# Altium integrated library Altera FLEX 10K.IntLib: 292 symbols (part 26 of 37)
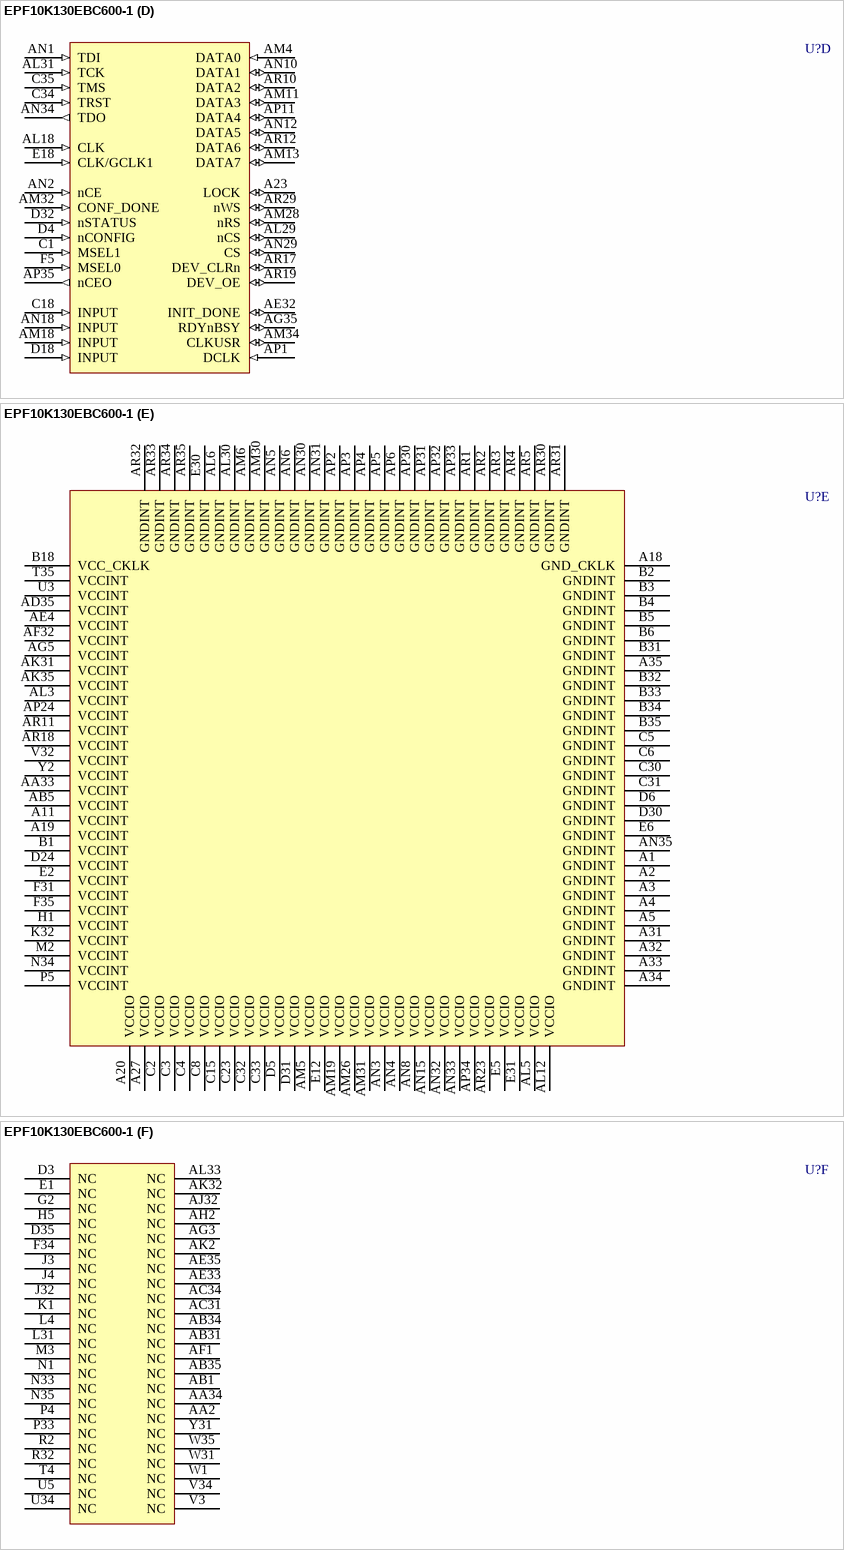
[diagram p424: symbol EPF10K130EBC600-1]

## EPF10K130EBC600-1
designator U?
FLEX EPF10K130E 2.5V Embedded PLD, 424 User IO Pins, 600-Pin BGA, Speed Grade 1, Commercial Grade; Published: 17-Jul-2002; LatestRevisionDate: 13-Apr-2006; LatestRevisionNote: IPC-7351 Footprint Added.; DatasheetVersion: ver2.5, Jan-2003; PackageVersion: ver14.1, Oct-2005; PackageReference: BGA600; Publisher: Altium Limited; PackageDescription: 600-Ball Ball Grid Array (BGA600); Code_JEDEC: MO-192-BAW-1 (Depopulated); ComponentLink1Description: Manufacturer Link; ComponentLink1URL: http://www.altera.com/products/devices/flex10k/f10-index.html; ComponentLink2Description: Datasheet; ComponentLink2URL: http://www.altera.com/literature/ds/dsf10ke.pdf
footprint BGA600 (BGA, 600-Leads, Body 45x45mm, Pitch 1.27mm)
3D model EPF10K130E-BGA600 (600-Ball Ball Grid Array (BGA600))
part A pins: A6 I/O (io), A7 I/O (io), A8 I/O (io), A9 I/O (io), A10 I/O (io), A12 I/O (io), A13 I/O (io), A14 I/O (io), A15 I/O (io), A16 I/O (io), A17 I/O (io), A21 I/O (io), A22 I/O (io), A24 I/O (io), A25 I/O (io), A26 I/O (io), A28 I/O (io), A29 I/O (io), A30 I/O (io), B7 I/O (io), B8 I/O (io), B9 I/O (io), B10 I/O (io), B11 I/O (io), B12 I/O (io), B13 I/O (io), B14 I/O (io), B15 I/O (io), B16 I/O (io), B17 I/O (io), B19 I/O (io), B20 I/O (io), B21 I/O (io), B22 I/O (io), B23 I/O (io), B24 I/O (io), B25 I/O (io), B26 I/O (io), B27 I/O (io), B28 I/O (io), B29 I/O (io), B30 I/O (io), C7 I/O (io), C9 I/O (io), C10 I/O (io), C11 I/O (io), C12 I/O (io), C13 I/O (io), C14 I/O (io), C16 I/O (io), C17 I/O (io), C19 I/O (io), C20 I/O (io), C21 I/O (io), C22 I/O (io), C24 I/O (io), C25 I/O (io), C26 I/O (io), C27 I/O (io), C28 I/O (io), C29 I/O (io), D1 I/O (io), D2 I/O (io), D7 I/O (io), D8 I/O (io), D9 I/O (io), D10 I/O (io), D11 I/O (io), D12 I/O (io), D13 I/O (io), D14 I/O (io), D15 I/O (io), D16 I/O (io), D17 I/O (io), D19 I/O (io), D20 I/O (io), D21 I/O (io), D22 I/O (io), D23 I/O (io), D25 I/O (io), D26 I/O (io), D27 I/O (io), D28 I/O (io), D29 I/O (io), D33 I/O (io), D34 I/O (io), E3 I/O (io), E4 I/O (io), E7 I/O (io), E8 I/O (io), E9 I/O (io), E10 I/O (io), E11 I/O (io), E13 I/O (io), E14 I/O (io), E15 I/O (io), E16 I/O (io), E17 I/O (io), E19 I/O (io), E20 I/O (io), E21 I/O (io), E22 I/O (io), E23 I/O (io), E24 I/O (io), E25 I/O (io), E26 I/O (io), E27 I/O (io), E28 I/O (io), E29 I/O (io), E32 I/O (io), E33 I/O (io), E34 I/O (io), E35 I/O (io), F1 I/O (io), F2 I/O (io), F3 I/O (io), F4 I/O (io), F32 I/O (io), F33 I/O (io), G1 I/O (io), G3 I/O (io), G4 I/O (io), G5 I/O (io), G31 I/O (io), G32 I/O (io), G33 I/O (io), G34 I/O (io), G35 I/O (io), H2 I/O (io), H3 I/O (io), H4 I/O (io), H31 I/O (io), H32 I/O (io), H33 I/O (io), H34 I/O (io), H35 I/O (io), K2 I/O (io), K3 I/O (io), K4 I/O (io), K5 I/O (io), K31 I/O (io), K33 I/O (io), K34 I/O (io), K35 I/O (io)
part B pins: AA1 I/O (io), AA3 I/O (io), AA4 I/O (io), AA5 I/O (io), AA31 I/O (io), AA32 I/O (io), AA35 I/O (io), AB2 I/O (io), AB3 I/O (io), AB4 I/O (io), AB32 I/O (io), AB33 I/O (io), AC1 I/O (io), AC2 I/O (io), AC3 I/O (io), AC4 I/O (io), AC5 I/O (io), AC32 I/O (io), AC33 I/O (io), AC35 I/O (io), AD1 I/O (io), AD2 I/O (io), AD3 I/O (io), AD4 I/O (io), AD5 I/O (io), AD31 I/O (io), AD32 I/O (io), AD33 I/O (io), AD34 I/O (io), AE1 I/O (io), AE2 I/O (io), AE3 I/O (io), AE5 I/O (io), AE31 I/O (io), AE34 I/O (io), AF2 I/O (io), AF3 I/O (io), AF4 I/O (io), AF5 I/O (io), AF31 I/O (io), AF33 I/O (io), AF34 I/O (io), AF35 I/O (io), AG1 I/O (io), AG2 I/O (io), AG4 I/O (io), AG31 I/O (io), AG32 I/O (io), AG33 I/O (io), AG34 I/O (io), AH1 I/O (io), AH3 I/O (io), AH4 I/O (io), AH5 I/O (io), AH31 I/O (io), AH32 I/O (io), AH33 I/O (io), AH34 I/O (io), AH35 I/O (io), AJ1 I/O (io), AJ2 I/O (io), AJ3 I/O (io), AJ4 I/O (io), J1 I/O (io), J2 I/O (io), J5 I/O (io), J31 I/O (io), J33 I/O (io), J34 I/O (io), J35 I/O (io), L1 I/O (io), L2 I/O (io), L3 I/O (io), L5 I/O (io), L32 I/O (io), L33 I/O (io), L34 I/O (io), L35 I/O (io), M1 I/O (io), M4 I/O (io), M5 I/O (io), M31 I/O (io), M32 I/O (io), M33 I/O (io), M34 I/O (io), M35 I/O (io), N2 I/O (io), N3 I/O (io), N4 I/O (io), N5 I/O (io), N31 I/O (io), N32 I/O (io), P1 I/O (io), P2 I/O (io), P3 I/O (io), P31 I/O (io), P32 I/O (io), P34 I/O (io), P35 I/O (io), R1 I/O (io), R3 I/O (io), R4 I/O (io), R5 I/O (io), R31 I/O (io), R33 I/O (io), R34 I/O (io), R35 I/O (io), T1 I/O (io), T2 I/O (io), T3 I/O (io), T5 I/O (io), T31 I/O (io), T32 I/O (io), T33 I/O (io), T34 I/O (io), U1 I/O (io), U2 I/O (io), U4 I/O (io), U31 I/O (io), U32 I/O (io), U33 I/O (io), U35 I/O (io), V1 I/O (io), V2 I/O (io), V4 I/O (io), V5 I/O (io), V31 I/O (io), V33 I/O (io), V35 I/O (io), W2 I/O (io), W3 I/O (io), W4 I/O (io), W5 I/O (io), W32 I/O (io), W33 I/O (io), W34 I/O (io), Y1 I/O (io), Y3 I/O (io), Y4 I/O (io), Y5 I/O (io), Y32 I/O (io), Y33 I/O (io), Y34 I/O (io), Y35 I/O (io)
part C pins: AJ5 I/O (io), AJ31 I/O (io), AJ33 I/O (io), AJ34 I/O (io), AJ35 I/O (io), AK1 I/O (io), AK3 I/O (io), AK4 I/O (io), AK5 I/O (io), AK33 I/O (io), AK34 I/O (io), AL1 I/O (io), AL2 I/O (io), AL4 I/O (io), AL7 I/O (io), AL8 I/O (io), AL9 I/O (io), AL10 I/O (io), AL11 I/O (io), AL13 I/O (io), AL14 I/O (io), AL15 I/O (io), AL16 I/O (io), AL17 I/O (io), AL19 I/O (io), AL20 I/O (io), AL21 I/O (io), AL22 I/O (io), AL23 I/O (io), AL24 I/O (io), AL25 I/O (io), AL26 I/O (io), AL27 I/O (io), AL28 I/O (io), AL32 I/O (io), AL34 I/O (io), AL35 I/O (io), AM1 I/O (io), AM2 I/O (io), AM3 I/O (io), AM7 I/O (io), AM8 I/O (io), AM9 I/O (io), AM10 I/O (io), AM12 I/O (io), AM14 I/O (io), AM15 I/O (io), AM16 I/O (io), AM17 I/O (io), AM20 I/O (io), AM21 I/O (io), AM22 I/O (io), AM23 I/O (io), AM24 I/O (io), AM25 I/O (io), AM27 I/O (io), AM29 I/O (io), AM33 I/O (io), AM35 I/O (io), AN7 I/O (io), AN9 I/O (io), AN11 I/O (io), AN13 I/O (io), AN14 I/O (io), AN16 I/O (io), AN17 I/O (io), AN19 I/O (io), AN20 I/O (io), AN21 I/O (io), AN22 I/O (io), AN23 I/O (io), AN24 I/O (io), AN25 I/O (io), AN26 I/O (io), AN27 I/O (io), AN28 I/O (io), AP7 I/O (io), AP8 I/O (io), AP9 I/O (io), AP10 I/O (io), AP12 I/O (io), AP13 I/O (io), AP14 I/O (io), AP15 I/O (io), AP16 I/O (io), AP17 I/O (io), AP18 I/O (io), AP19 I/O (io), AP20 I/O (io), AP21 I/O (io), AP22 I/O (io), AP23 I/O (io), AP25 I/O (io), AP26 I/O (io), AP27 I/O (io), AP28 I/O (io), AP29 I/O (io), AR6 I/O (io), AR7 I/O (io), AR8 I/O (io), AR9 I/O (io), AR13 I/O (io), AR14 I/O (io), AR15 I/O (io), AR16 I/O (io), AR20 I/O (io), AR21 I/O (io), AR22 I/O (io), AR24 I/O (io), AR25 I/O (io), AR26 I/O (io), AR27 I/O (io), AR28 I/O (io)
part D pins: A23 LOCK (io), AE32 INIT_DONE (io), AG35 RDYnBSY (io), AL18 CLK (in), AL29 nCS (io), AL31 TCK (in), AM4 DATA0 (in), AM11 DATA3 (io), AM13 DATA7 (io), AM18 INPUT (in), AM28 nRS (io), AM32 CONF_DONE (in), AM34 CLKUSR (io), AN1 TDI (in), AN2 nCE (in), AN10 DATA1 (io), AN12 DATA5 (io), AN18 INPUT (in), AN29 CS (io), AN34 TDO (out), AP1 DCLK (in), AP11 DATA4 (io), AP35 nCEO (out), AR10 DATA2 (io), AR12 DATA6 (io), AR17 DEV_CLRn (io), AR19 DEV_OE (io), AR29 nWS (io), C1 MSEL1 (in), C18 INPUT (in), C34 TRST (in), C35 TMS (in), D4 nCONFIG (in), D18 INPUT (in), D32 nSTATUS (in), E18 CLK/GCLK1 (in), F5 MSEL0 (in)
part E pins: A1 GNDINT (power), A2 GNDINT (power), A3 GNDINT (power), A4 GNDINT (power), A5 GNDINT (power), A11 VCCINT (power), A18 GND_CKLK (power), A19 VCCINT (power), A20 VCCIO (power), A27 VCCIO (power), A31 GNDINT (power), A32 GNDINT (power), A33 GNDINT (power), A34 GNDINT (power), A35 GNDINT (power), AA33 VCCINT (power), AB5 VCCINT (power), AD35 VCCINT (power), AE4 VCCINT (power), AF32 VCCINT (power), AG5 VCCINT (power), AK31 VCCINT (power), AK35 VCCINT (power), AL3 VCCINT (power), AL5 VCCIO (power), AL6 GNDINT (power), AL12 VCCIO (power), AL30 GNDINT (power), AM5 VCCIO (power), AM6 GNDINT (power), AM19 VCCIO (power), AM26 VCCIO (power), AM30 GNDINT (power), AM31 VCCIO (power), AN3 VCCIO (power), AN4 VCCIO (power), AN5 GNDINT (power), AN6 GNDINT (power), AN8 VCCIO (power), AN15 VCCIO (power), AN30 GNDINT (power), AN31 GNDINT (power), AN32 VCCIO (power), AN33 VCCIO (power), AN35 GNDINT (power), AP2 GNDINT (power), AP3 GNDINT (power), AP4 GNDINT (power), AP5 GNDINT (power), AP6 GNDINT (power), AP24 VCCINT (power), AP30 GNDINT (power), AP31 GNDINT (power), AP32 GNDINT (power), AP33 GNDINT (power), AP34 VCCIO (power), AR1 GNDINT (power), AR2 GNDINT (power), AR3 GNDINT (power), AR4 GNDINT (power), AR5 GNDINT (power), AR11 VCCINT (power), AR18 VCCINT (power), AR23 VCCIO (power), AR30 GNDINT (power), AR31 GNDINT (power), AR32 GNDINT (power), AR33 GNDINT (power), AR34 GNDINT (power), AR35 GNDINT (power), B1 VCCINT (power), B2 GNDINT (power), B3 GNDINT (power), B4 GNDINT (power), B5 GNDINT (power), B6 GNDINT (power), B18 VCC_CKLK (power), B31 GNDINT (power), B32 GNDINT (power), B33 GNDINT (power), B34 GNDINT (power), B35 GNDINT (power), C2 VCCIO (power), C3 VCCIO (power), C4 VCCIO (power), C5 GNDINT (power), C6 GNDINT (power), C8 VCCIO (power), C15 VCCIO (power), C23 VCCIO (power), C30 GNDINT (power), C31 GNDINT (power), C32 VCCIO (power), C33 VCCIO (power), D5 VCCIO (power), D6 GNDINT (power), D24 VCCINT (power), D30 GNDINT (power), D31 VCCIO (power), E2 VCCINT (power), E5 VCCIO (power), E6 GNDINT (power), E12 VCCIO (power), E30 GNDINT (power), E31 VCCIO (power), F31 VCCINT (power), F35 VCCINT (power), H1 VCCINT (power), K32 VCCINT (power), M2 VCCINT (power), N34 VCCINT (power), P5 VCCINT (power), T35 VCCINT (power), U3 VCCINT (power), V32 VCCINT (power), Y2 VCCINT (power)
part F pins: AA2 NC, AA34 NC, AB1 NC, AB31 NC, AB34 NC, AB35 NC, AC31 NC, AC34 NC, AE33 NC, AE35 NC, AF1 NC, AG3 NC, AH2 NC, AJ32 NC, AK2 NC, AK32 NC, AL33 NC, D3 NC, D35 NC, E1 NC, F34 NC, G2 NC, H5 NC, J3 NC, J4 NC, J32 NC, K1 NC, L4 NC, L31 NC, M3 NC, N1 NC, N33 NC, N35 NC, P4 NC, P33 NC, R2 NC, R32 NC, T4 NC, U5 NC, U34 NC, V3 NC, V34 NC, W1 NC, W31 NC, W35 NC, Y31 NC

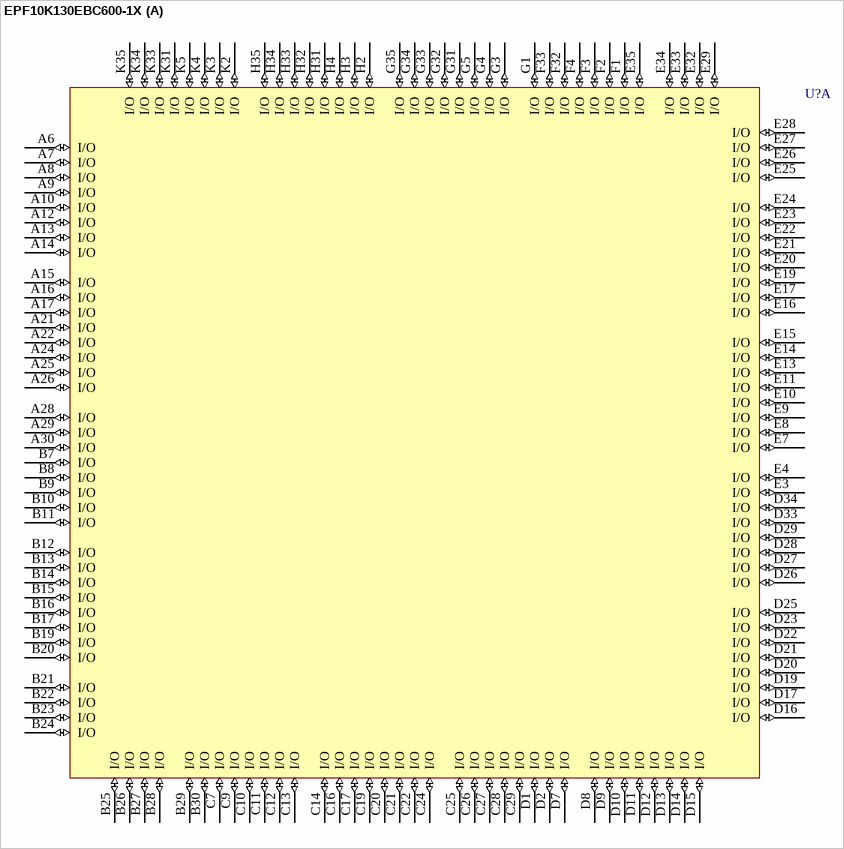
[diagram p270: symbol EPF10K130EBC600-1X]

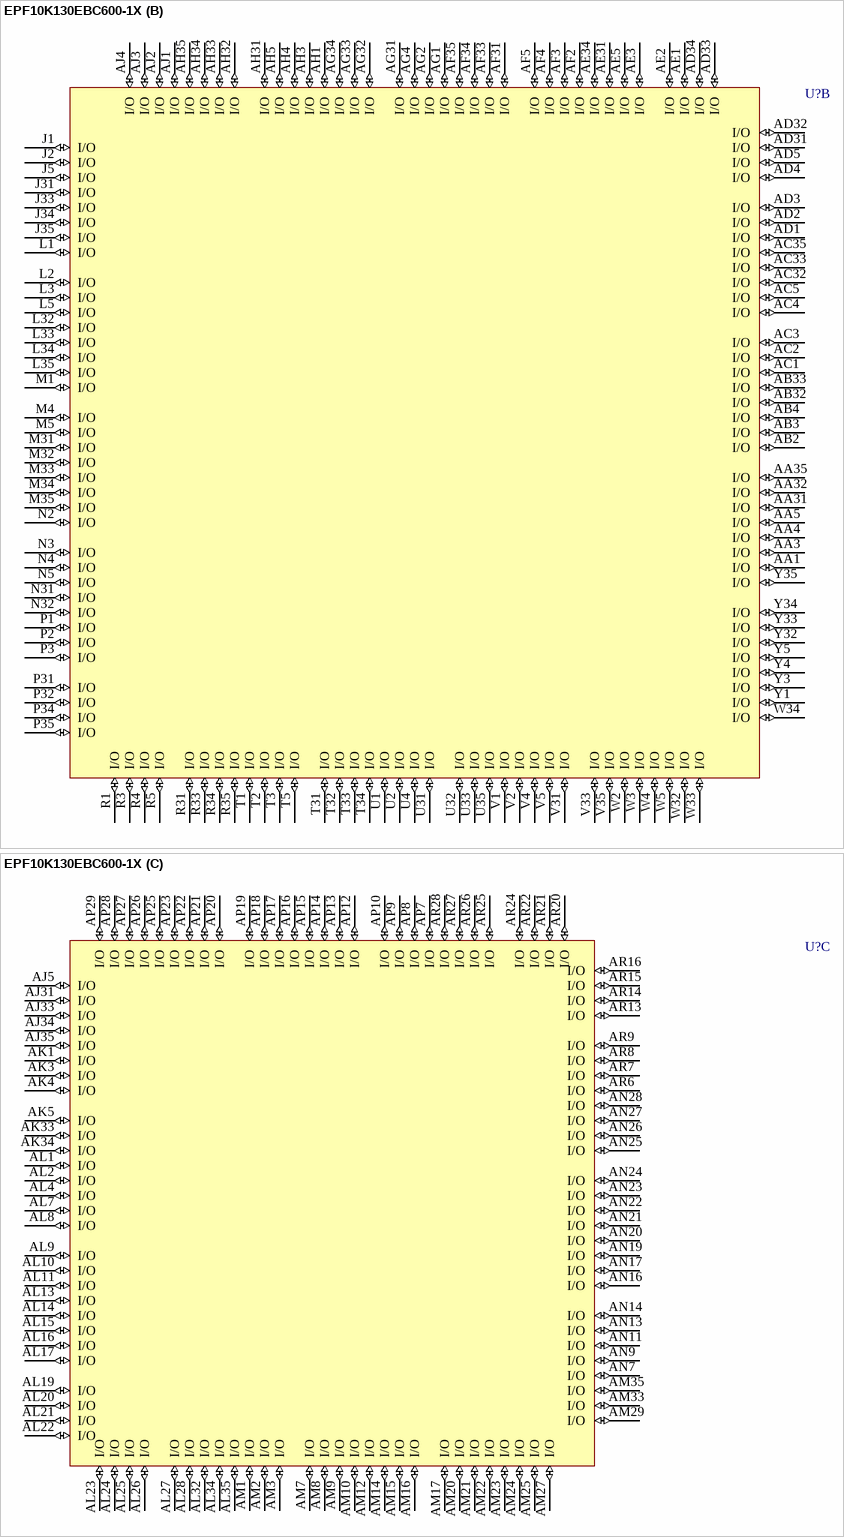
[diagram p271: symbol EPF10K130EBC600-1X]

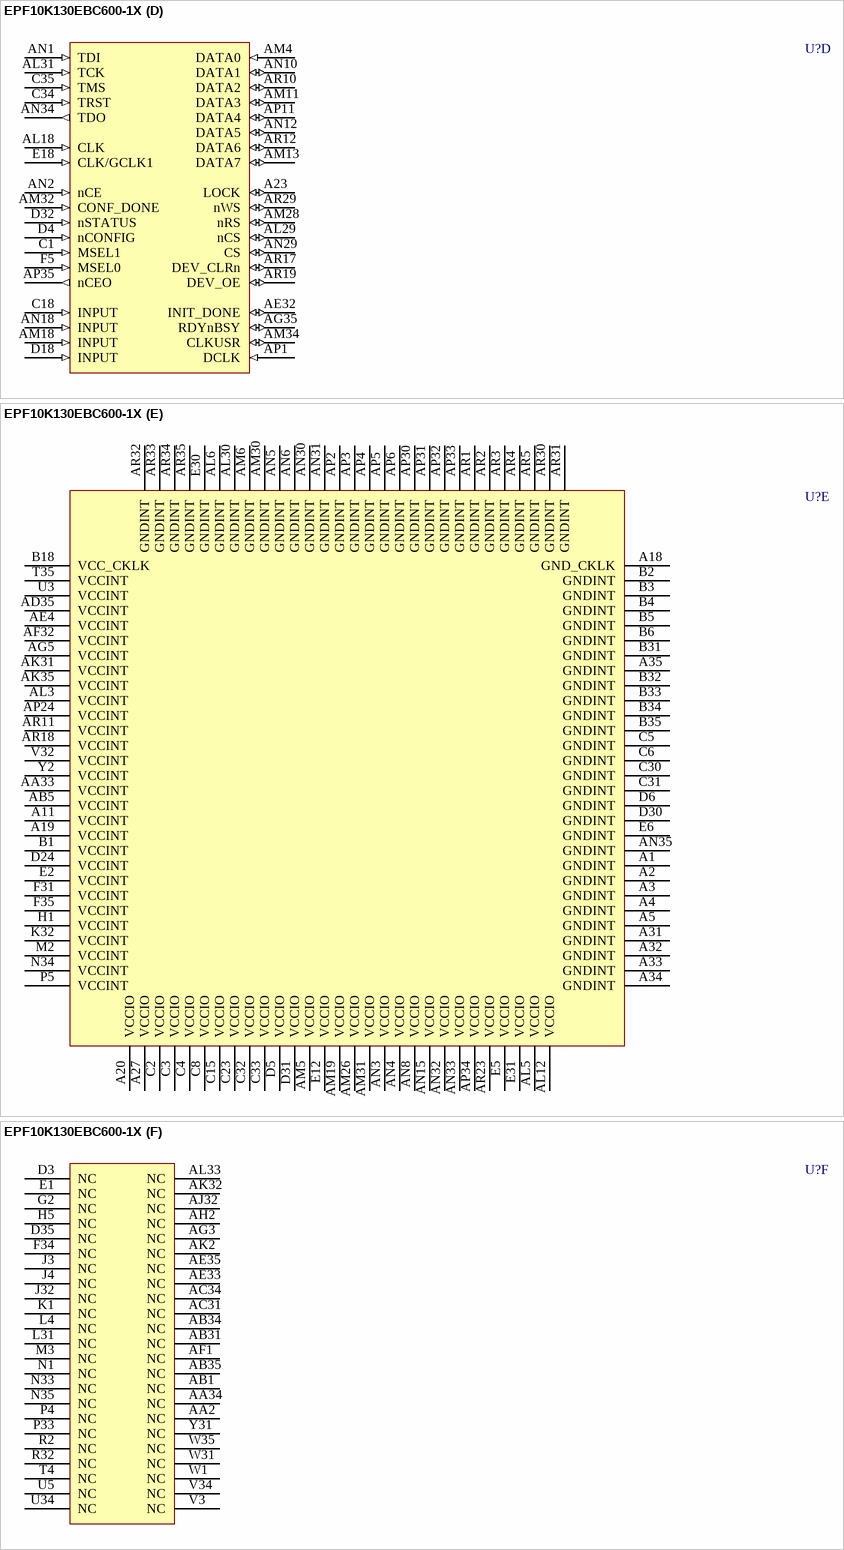
[diagram p272: symbol EPF10K130EBC600-1X]

## EPF10K130EBC600-1X
designator U?
FLEX EPF10K130E 2.5V Embedded PLD, 424 User IO Pins, 600-Pin BGA, Speed Grade 1, Commercial Grade; Published: 17-Jul-2002; LatestRevisionDate: 13-Apr-2006; LatestRevisionNote: IPC-7351 Footprint Added.; DatasheetVersion: ver2.5, Jan-2003; PackageVersion: ver14.1, Oct-2005; PackageReference: BGA600; Publisher: Altium Limited; PackageDescription: 600-Ball Ball Grid Array (BGA600); Code_JEDEC: MO-192-BAW-1 (Depopulated); ComponentLink1Description: Manufacturer Link; ComponentLink1URL: http://www.altera.com/products/devices/flex10k/f10-index.html; ComponentLink2Description: Datasheet; ComponentLink2URL: http://www.altera.com/literature/ds/dsf10ke.pdf
footprint BGA600 (BGA, 600-Leads, Body 45x45mm, Pitch 1.27mm)
3D model EPF10K130E-BGA600 (600-Ball Ball Grid Array (BGA600))
part A pins: A6 I/O (io), A7 I/O (io), A8 I/O (io), A9 I/O (io), A10 I/O (io), A12 I/O (io), A13 I/O (io), A14 I/O (io), A15 I/O (io), A16 I/O (io), A17 I/O (io), A21 I/O (io), A22 I/O (io), A24 I/O (io), A25 I/O (io), A26 I/O (io), A28 I/O (io), A29 I/O (io), A30 I/O (io), B7 I/O (io), B8 I/O (io), B9 I/O (io), B10 I/O (io), B11 I/O (io), B12 I/O (io), B13 I/O (io), B14 I/O (io), B15 I/O (io), B16 I/O (io), B17 I/O (io), B19 I/O (io), B20 I/O (io), B21 I/O (io), B22 I/O (io), B23 I/O (io), B24 I/O (io), B25 I/O (io), B26 I/O (io), B27 I/O (io), B28 I/O (io), B29 I/O (io), B30 I/O (io), C7 I/O (io), C9 I/O (io), C10 I/O (io), C11 I/O (io), C12 I/O (io), C13 I/O (io), C14 I/O (io), C16 I/O (io), C17 I/O (io), C19 I/O (io), C20 I/O (io), C21 I/O (io), C22 I/O (io), C24 I/O (io), C25 I/O (io), C26 I/O (io), C27 I/O (io), C28 I/O (io), C29 I/O (io), D1 I/O (io), D2 I/O (io), D7 I/O (io), D8 I/O (io), D9 I/O (io), D10 I/O (io), D11 I/O (io), D12 I/O (io), D13 I/O (io), D14 I/O (io), D15 I/O (io), D16 I/O (io), D17 I/O (io), D19 I/O (io), D20 I/O (io), D21 I/O (io), D22 I/O (io), D23 I/O (io), D25 I/O (io), D26 I/O (io), D27 I/O (io), D28 I/O (io), D29 I/O (io), D33 I/O (io), D34 I/O (io), E3 I/O (io), E4 I/O (io), E7 I/O (io), E8 I/O (io), E9 I/O (io), E10 I/O (io), E11 I/O (io), E13 I/O (io), E14 I/O (io), E15 I/O (io), E16 I/O (io), E17 I/O (io), E19 I/O (io), E20 I/O (io), E21 I/O (io), E22 I/O (io), E23 I/O (io), E24 I/O (io), E25 I/O (io), E26 I/O (io), E27 I/O (io), E28 I/O (io), E29 I/O (io), E32 I/O (io), E33 I/O (io), E34 I/O (io), E35 I/O (io), F1 I/O (io), F2 I/O (io), F3 I/O (io), F4 I/O (io), F32 I/O (io), F33 I/O (io), G1 I/O (io), G3 I/O (io), G4 I/O (io), G5 I/O (io), G31 I/O (io), G32 I/O (io), G33 I/O (io), G34 I/O (io), G35 I/O (io), H2 I/O (io), H3 I/O (io), H4 I/O (io), H31 I/O (io), H32 I/O (io), H33 I/O (io), H34 I/O (io), H35 I/O (io), K2 I/O (io), K3 I/O (io), K4 I/O (io), K5 I/O (io), K31 I/O (io), K33 I/O (io), K34 I/O (io), K35 I/O (io)
part B pins: AA1 I/O (io), AA3 I/O (io), AA4 I/O (io), AA5 I/O (io), AA31 I/O (io), AA32 I/O (io), AA35 I/O (io), AB2 I/O (io), AB3 I/O (io), AB4 I/O (io), AB32 I/O (io), AB33 I/O (io), AC1 I/O (io), AC2 I/O (io), AC3 I/O (io), AC4 I/O (io), AC5 I/O (io), AC32 I/O (io), AC33 I/O (io), AC35 I/O (io), AD1 I/O (io), AD2 I/O (io), AD3 I/O (io), AD4 I/O (io), AD5 I/O (io), AD31 I/O (io), AD32 I/O (io), AD33 I/O (io), AD34 I/O (io), AE1 I/O (io), AE2 I/O (io), AE3 I/O (io), AE5 I/O (io), AE31 I/O (io), AE34 I/O (io), AF2 I/O (io), AF3 I/O (io), AF4 I/O (io), AF5 I/O (io), AF31 I/O (io), AF33 I/O (io), AF34 I/O (io), AF35 I/O (io), AG1 I/O (io), AG2 I/O (io), AG4 I/O (io), AG31 I/O (io), AG32 I/O (io), AG33 I/O (io), AG34 I/O (io), AH1 I/O (io), AH3 I/O (io), AH4 I/O (io), AH5 I/O (io), AH31 I/O (io), AH32 I/O (io), AH33 I/O (io), AH34 I/O (io), AH35 I/O (io), AJ1 I/O (io), AJ2 I/O (io), AJ3 I/O (io), AJ4 I/O (io), J1 I/O (io), J2 I/O (io), J5 I/O (io), J31 I/O (io), J33 I/O (io), J34 I/O (io), J35 I/O (io), L1 I/O (io), L2 I/O (io), L3 I/O (io), L5 I/O (io), L32 I/O (io), L33 I/O (io), L34 I/O (io), L35 I/O (io), M1 I/O (io), M4 I/O (io), M5 I/O (io), M31 I/O (io), M32 I/O (io), M33 I/O (io), M34 I/O (io), M35 I/O (io), N2 I/O (io), N3 I/O (io), N4 I/O (io), N5 I/O (io), N31 I/O (io), N32 I/O (io), P1 I/O (io), P2 I/O (io), P3 I/O (io), P31 I/O (io), P32 I/O (io), P34 I/O (io), P35 I/O (io), R1 I/O (io), R3 I/O (io), R4 I/O (io), R5 I/O (io), R31 I/O (io), R33 I/O (io), R34 I/O (io), R35 I/O (io), T1 I/O (io), T2 I/O (io), T3 I/O (io), T5 I/O (io), T31 I/O (io), T32 I/O (io), T33 I/O (io), T34 I/O (io), U1 I/O (io), U2 I/O (io), U4 I/O (io), U31 I/O (io), U32 I/O (io), U33 I/O (io), U35 I/O (io), V1 I/O (io), V2 I/O (io), V4 I/O (io), V5 I/O (io), V31 I/O (io), V33 I/O (io), V35 I/O (io), W2 I/O (io), W3 I/O (io), W4 I/O (io), W5 I/O (io), W32 I/O (io), W33 I/O (io), W34 I/O (io), Y1 I/O (io), Y3 I/O (io), Y4 I/O (io), Y5 I/O (io), Y32 I/O (io), Y33 I/O (io), Y34 I/O (io), Y35 I/O (io)
part C pins: AJ5 I/O (io), AJ31 I/O (io), AJ33 I/O (io), AJ34 I/O (io), AJ35 I/O (io), AK1 I/O (io), AK3 I/O (io), AK4 I/O (io), AK5 I/O (io), AK33 I/O (io), AK34 I/O (io), AL1 I/O (io), AL2 I/O (io), AL4 I/O (io), AL7 I/O (io), AL8 I/O (io), AL9 I/O (io), AL10 I/O (io), AL11 I/O (io), AL13 I/O (io), AL14 I/O (io), AL15 I/O (io), AL16 I/O (io), AL17 I/O (io), AL19 I/O (io), AL20 I/O (io), AL21 I/O (io), AL22 I/O (io), AL23 I/O (io), AL24 I/O (io), AL25 I/O (io), AL26 I/O (io), AL27 I/O (io), AL28 I/O (io), AL32 I/O (io), AL34 I/O (io), AL35 I/O (io), AM1 I/O (io), AM2 I/O (io), AM3 I/O (io), AM7 I/O (io), AM8 I/O (io), AM9 I/O (io), AM10 I/O (io), AM12 I/O (io), AM14 I/O (io), AM15 I/O (io), AM16 I/O (io), AM17 I/O (io), AM20 I/O (io), AM21 I/O (io), AM22 I/O (io), AM23 I/O (io), AM24 I/O (io), AM25 I/O (io), AM27 I/O (io), AM29 I/O (io), AM33 I/O (io), AM35 I/O (io), AN7 I/O (io), AN9 I/O (io), AN11 I/O (io), AN13 I/O (io), AN14 I/O (io), AN16 I/O (io), AN17 I/O (io), AN19 I/O (io), AN20 I/O (io), AN21 I/O (io), AN22 I/O (io), AN23 I/O (io), AN24 I/O (io), AN25 I/O (io), AN26 I/O (io), AN27 I/O (io), AN28 I/O (io), AP7 I/O (io), AP8 I/O (io), AP9 I/O (io), AP10 I/O (io), AP12 I/O (io), AP13 I/O (io), AP14 I/O (io), AP15 I/O (io), AP16 I/O (io), AP17 I/O (io), AP18 I/O (io), AP19 I/O (io), AP20 I/O (io), AP21 I/O (io), AP22 I/O (io), AP23 I/O (io), AP25 I/O (io), AP26 I/O (io), AP27 I/O (io), AP28 I/O (io), AP29 I/O (io), AR6 I/O (io), AR7 I/O (io), AR8 I/O (io), AR9 I/O (io), AR13 I/O (io), AR14 I/O (io), AR15 I/O (io), AR16 I/O (io), AR20 I/O (io), AR21 I/O (io), AR22 I/O (io), AR24 I/O (io), AR25 I/O (io), AR26 I/O (io), AR27 I/O (io), AR28 I/O (io)
part D pins: A23 LOCK (io), AE32 INIT_DONE (io), AG35 RDYnBSY (io), AL18 CLK (in), AL29 nCS (io), AL31 TCK (in), AM4 DATA0 (in), AM11 DATA3 (io), AM13 DATA7 (io), AM18 INPUT (in), AM28 nRS (io), AM32 CONF_DONE (in), AM34 CLKUSR (io), AN1 TDI (in), AN2 nCE (in), AN10 DATA1 (io), AN12 DATA5 (io), AN18 INPUT (in), AN29 CS (io), AN34 TDO (out), AP1 DCLK (in), AP11 DATA4 (io), AP35 nCEO (out), AR10 DATA2 (io), AR12 DATA6 (io), AR17 DEV_CLRn (io), AR19 DEV_OE (io), AR29 nWS (io), C1 MSEL1 (in), C18 INPUT (in), C34 TRST (in), C35 TMS (in), D4 nCONFIG (in), D18 INPUT (in), D32 nSTATUS (in), E18 CLK/GCLK1 (in), F5 MSEL0 (in)
part E pins: A1 GNDINT (power), A2 GNDINT (power), A3 GNDINT (power), A4 GNDINT (power), A5 GNDINT (power), A11 VCCINT (power), A18 GND_CKLK (power), A19 VCCINT (power), A20 VCCIO (power), A27 VCCIO (power), A31 GNDINT (power), A32 GNDINT (power), A33 GNDINT (power), A34 GNDINT (power), A35 GNDINT (power), AA33 VCCINT (power), AB5 VCCINT (power), AD35 VCCINT (power), AE4 VCCINT (power), AF32 VCCINT (power), AG5 VCCINT (power), AK31 VCCINT (power), AK35 VCCINT (power), AL3 VCCINT (power), AL5 VCCIO (power), AL6 GNDINT (power), AL12 VCCIO (power), AL30 GNDINT (power), AM5 VCCIO (power), AM6 GNDINT (power), AM19 VCCIO (power), AM26 VCCIO (power), AM30 GNDINT (power), AM31 VCCIO (power), AN3 VCCIO (power), AN4 VCCIO (power), AN5 GNDINT (power), AN6 GNDINT (power), AN8 VCCIO (power), AN15 VCCIO (power), AN30 GNDINT (power), AN31 GNDINT (power), AN32 VCCIO (power), AN33 VCCIO (power), AN35 GNDINT (power), AP2 GNDINT (power), AP3 GNDINT (power), AP4 GNDINT (power), AP5 GNDINT (power), AP6 GNDINT (power), AP24 VCCINT (power), AP30 GNDINT (power), AP31 GNDINT (power), AP32 GNDINT (power), AP33 GNDINT (power), AP34 VCCIO (power), AR1 GNDINT (power), AR2 GNDINT (power), AR3 GNDINT (power), AR4 GNDINT (power), AR5 GNDINT (power), AR11 VCCINT (power), AR18 VCCINT (power), AR23 VCCIO (power), AR30 GNDINT (power), AR31 GNDINT (power), AR32 GNDINT (power), AR33 GNDINT (power), AR34 GNDINT (power), AR35 GNDINT (power), B1 VCCINT (power), B2 GNDINT (power), B3 GNDINT (power), B4 GNDINT (power), B5 GNDINT (power), B6 GNDINT (power), B18 VCC_CKLK (power), B31 GNDINT (power), B32 GNDINT (power), B33 GNDINT (power), B34 GNDINT (power), B35 GNDINT (power), C2 VCCIO (power), C3 VCCIO (power), C4 VCCIO (power), C5 GNDINT (power), C6 GNDINT (power), C8 VCCIO (power), C15 VCCIO (power), C23 VCCIO (power), C30 GNDINT (power), C31 GNDINT (power), C32 VCCIO (power), C33 VCCIO (power), D5 VCCIO (power), D6 GNDINT (power), D24 VCCINT (power), D30 GNDINT (power), D31 VCCIO (power), E2 VCCINT (power), E5 VCCIO (power), E6 GNDINT (power), E12 VCCIO (power), E30 GNDINT (power), E31 VCCIO (power), F31 VCCINT (power), F35 VCCINT (power), H1 VCCINT (power), K32 VCCINT (power), M2 VCCINT (power), N34 VCCINT (power), P5 VCCINT (power), T35 VCCINT (power), U3 VCCINT (power), V32 VCCINT (power), Y2 VCCINT (power)
part F pins: AA2 NC, AA34 NC, AB1 NC, AB31 NC, AB34 NC, AB35 NC, AC31 NC, AC34 NC, AE33 NC, AE35 NC, AF1 NC, AG3 NC, AH2 NC, AJ32 NC, AK2 NC, AK32 NC, AL33 NC, D3 NC, D35 NC, E1 NC, F34 NC, G2 NC, H5 NC, J3 NC, J4 NC, J32 NC, K1 NC, L4 NC, L31 NC, M3 NC, N1 NC, N33 NC, N35 NC, P4 NC, P33 NC, R2 NC, R32 NC, T4 NC, U5 NC, U34 NC, V3 NC, V34 NC, W1 NC, W31 NC, W35 NC, Y31 NC

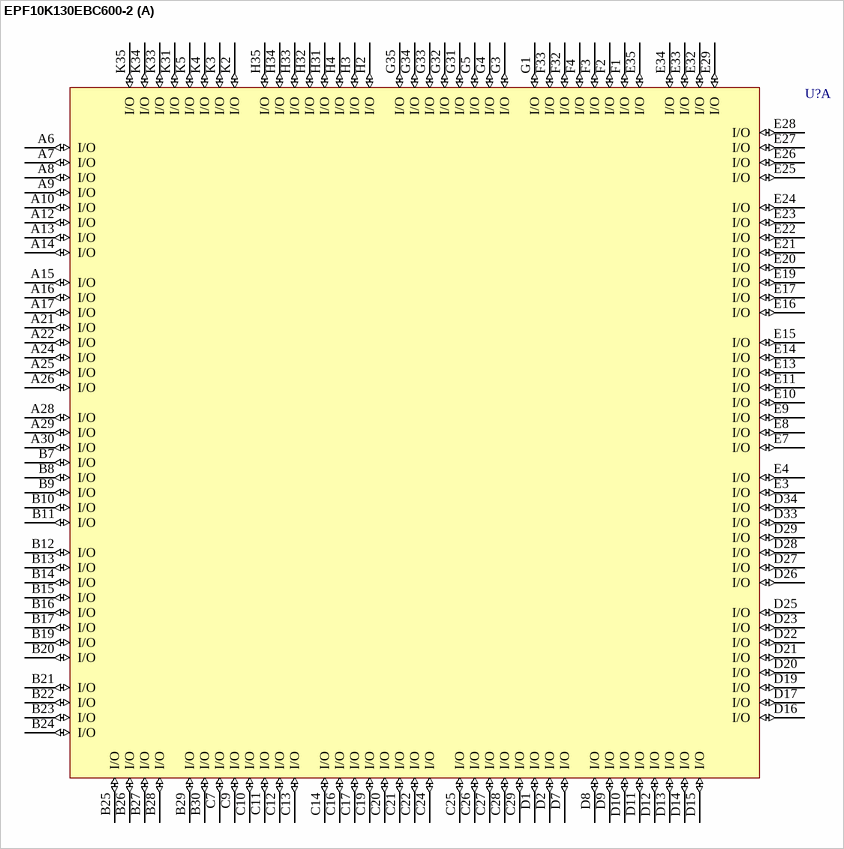
[diagram p273: symbol EPF10K130EBC600-2]

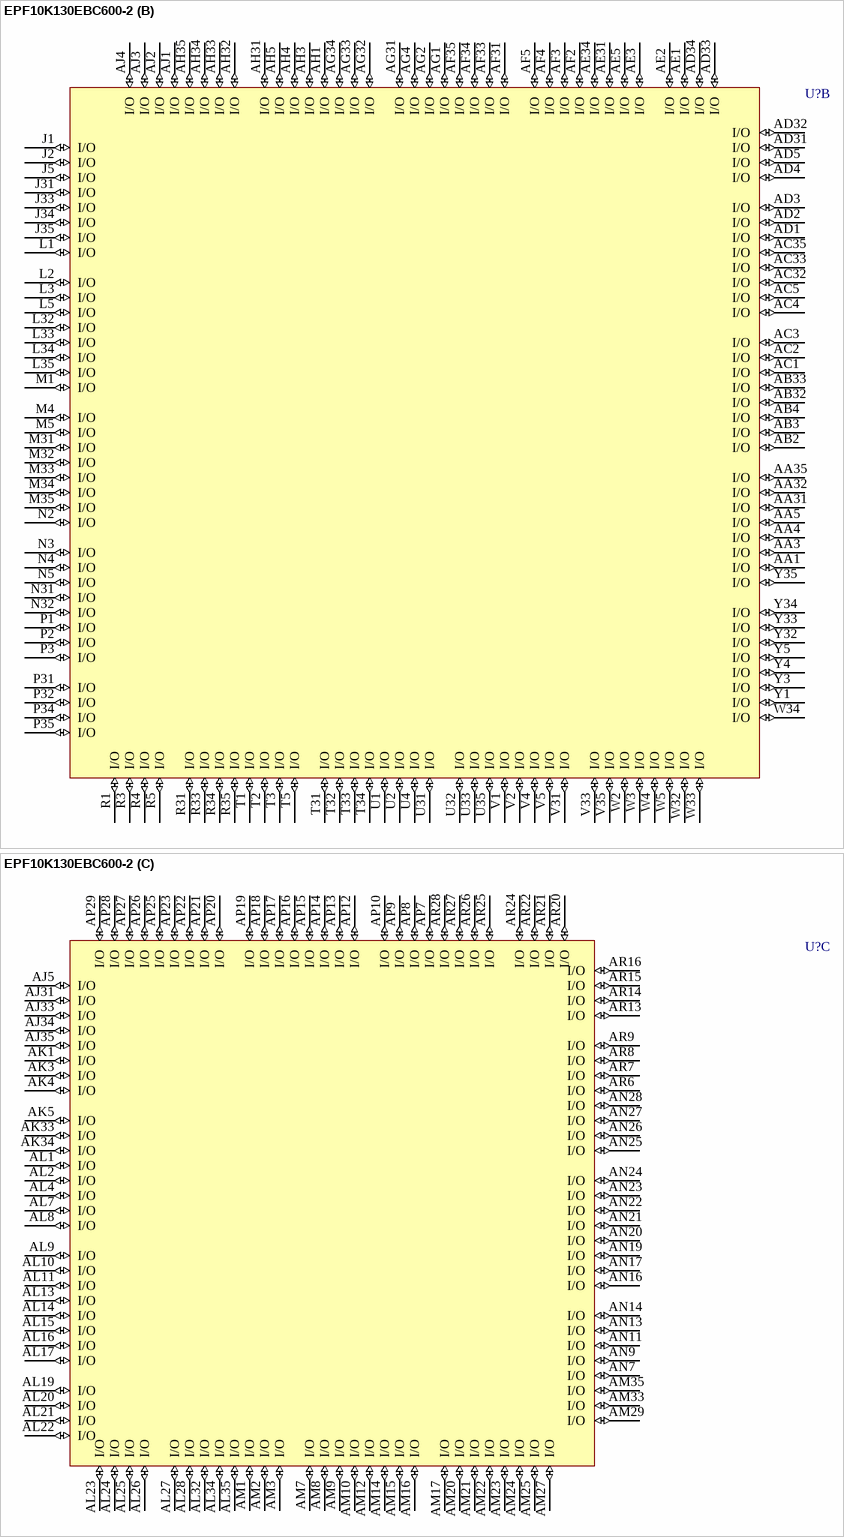
[diagram p274: symbol EPF10K130EBC600-2]

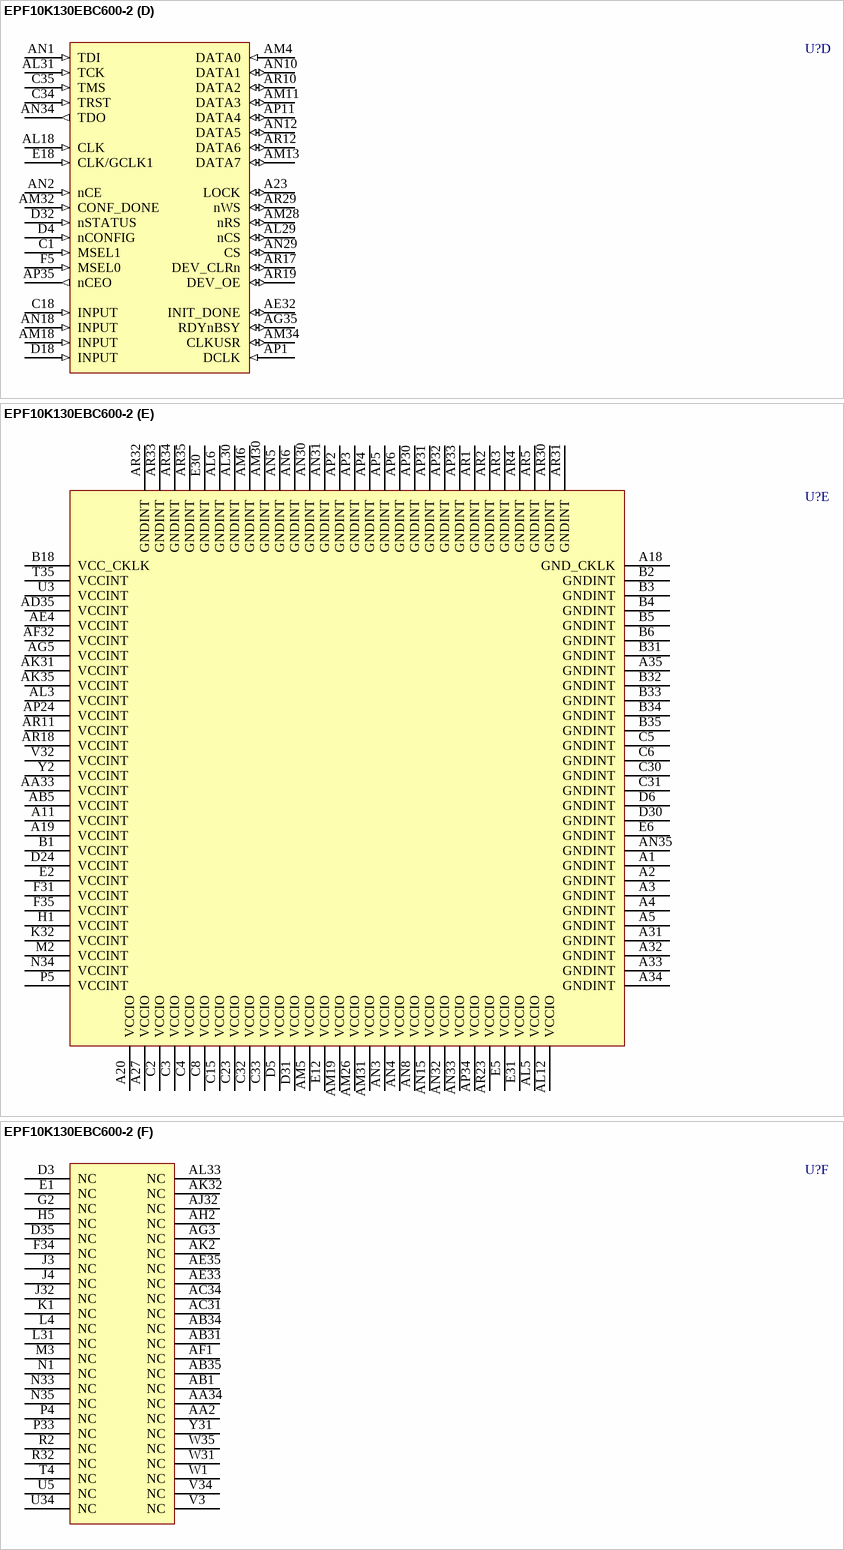
[diagram p275: symbol EPF10K130EBC600-2]

## EPF10K130EBC600-2
designator U?
FLEX EPF10K130E 2.5V Embedded PLD, 424 User IO Pins, 600-Pin BGA, Speed Grade 2, Commercial Grade; Published: 17-Jul-2002; LatestRevisionDate: 13-Apr-2006; LatestRevisionNote: IPC-7351 Footprint Added.; DatasheetVersion: ver2.5, Jan-2003; PackageVersion: ver14.1, Oct-2005; PackageReference: BGA600; Publisher: Altium Limited; PackageDescription: 600-Ball Ball Grid Array (BGA600); Code_JEDEC: MO-192-BAW-1 (Depopulated); ComponentLink1Description: Manufacturer Link; ComponentLink1URL: http://www.altera.com/products/devices/flex10k/f10-index.html; ComponentLink2Description: Datasheet; ComponentLink2URL: http://www.altera.com/literature/ds/dsf10ke.pdf
footprint BGA600 (BGA, 600-Leads, Body 45x45mm, Pitch 1.27mm)
3D model EPF10K130E-BGA600 (600-Ball Ball Grid Array (BGA600))
part A pins: A6 I/O (io), A7 I/O (io), A8 I/O (io), A9 I/O (io), A10 I/O (io), A12 I/O (io), A13 I/O (io), A14 I/O (io), A15 I/O (io), A16 I/O (io), A17 I/O (io), A21 I/O (io), A22 I/O (io), A24 I/O (io), A25 I/O (io), A26 I/O (io), A28 I/O (io), A29 I/O (io), A30 I/O (io), B7 I/O (io), B8 I/O (io), B9 I/O (io), B10 I/O (io), B11 I/O (io), B12 I/O (io), B13 I/O (io), B14 I/O (io), B15 I/O (io), B16 I/O (io), B17 I/O (io), B19 I/O (io), B20 I/O (io), B21 I/O (io), B22 I/O (io), B23 I/O (io), B24 I/O (io), B25 I/O (io), B26 I/O (io), B27 I/O (io), B28 I/O (io), B29 I/O (io), B30 I/O (io), C7 I/O (io), C9 I/O (io), C10 I/O (io), C11 I/O (io), C12 I/O (io), C13 I/O (io), C14 I/O (io), C16 I/O (io), C17 I/O (io), C19 I/O (io), C20 I/O (io), C21 I/O (io), C22 I/O (io), C24 I/O (io), C25 I/O (io), C26 I/O (io), C27 I/O (io), C28 I/O (io), C29 I/O (io), D1 I/O (io), D2 I/O (io), D7 I/O (io), D8 I/O (io), D9 I/O (io), D10 I/O (io), D11 I/O (io), D12 I/O (io), D13 I/O (io), D14 I/O (io), D15 I/O (io), D16 I/O (io), D17 I/O (io), D19 I/O (io), D20 I/O (io), D21 I/O (io), D22 I/O (io), D23 I/O (io), D25 I/O (io), D26 I/O (io), D27 I/O (io), D28 I/O (io), D29 I/O (io), D33 I/O (io), D34 I/O (io), E3 I/O (io), E4 I/O (io), E7 I/O (io), E8 I/O (io), E9 I/O (io), E10 I/O (io), E11 I/O (io), E13 I/O (io), E14 I/O (io), E15 I/O (io), E16 I/O (io), E17 I/O (io), E19 I/O (io), E20 I/O (io), E21 I/O (io), E22 I/O (io), E23 I/O (io), E24 I/O (io), E25 I/O (io), E26 I/O (io), E27 I/O (io), E28 I/O (io), E29 I/O (io), E32 I/O (io), E33 I/O (io), E34 I/O (io), E35 I/O (io), F1 I/O (io), F2 I/O (io), F3 I/O (io), F4 I/O (io), F32 I/O (io), F33 I/O (io), G1 I/O (io), G3 I/O (io), G4 I/O (io), G5 I/O (io), G31 I/O (io), G32 I/O (io), G33 I/O (io), G34 I/O (io), G35 I/O (io), H2 I/O (io), H3 I/O (io), H4 I/O (io), H31 I/O (io), H32 I/O (io), H33 I/O (io), H34 I/O (io), H35 I/O (io), K2 I/O (io), K3 I/O (io), K4 I/O (io), K5 I/O (io), K31 I/O (io), K33 I/O (io), K34 I/O (io), K35 I/O (io)
part B pins: AA1 I/O (io), AA3 I/O (io), AA4 I/O (io), AA5 I/O (io), AA31 I/O (io), AA32 I/O (io), AA35 I/O (io), AB2 I/O (io), AB3 I/O (io), AB4 I/O (io), AB32 I/O (io), AB33 I/O (io), AC1 I/O (io), AC2 I/O (io), AC3 I/O (io), AC4 I/O (io), AC5 I/O (io), AC32 I/O (io), AC33 I/O (io), AC35 I/O (io), AD1 I/O (io), AD2 I/O (io), AD3 I/O (io), AD4 I/O (io), AD5 I/O (io), AD31 I/O (io), AD32 I/O (io), AD33 I/O (io), AD34 I/O (io), AE1 I/O (io), AE2 I/O (io), AE3 I/O (io), AE5 I/O (io), AE31 I/O (io), AE34 I/O (io), AF2 I/O (io), AF3 I/O (io), AF4 I/O (io), AF5 I/O (io), AF31 I/O (io), AF33 I/O (io), AF34 I/O (io), AF35 I/O (io), AG1 I/O (io), AG2 I/O (io), AG4 I/O (io), AG31 I/O (io), AG32 I/O (io), AG33 I/O (io), AG34 I/O (io), AH1 I/O (io), AH3 I/O (io), AH4 I/O (io), AH5 I/O (io), AH31 I/O (io), AH32 I/O (io), AH33 I/O (io), AH34 I/O (io), AH35 I/O (io), AJ1 I/O (io), AJ2 I/O (io), AJ3 I/O (io), AJ4 I/O (io), J1 I/O (io), J2 I/O (io), J5 I/O (io), J31 I/O (io), J33 I/O (io), J34 I/O (io), J35 I/O (io), L1 I/O (io), L2 I/O (io), L3 I/O (io), L5 I/O (io), L32 I/O (io), L33 I/O (io), L34 I/O (io), L35 I/O (io), M1 I/O (io), M4 I/O (io), M5 I/O (io), M31 I/O (io), M32 I/O (io), M33 I/O (io), M34 I/O (io), M35 I/O (io), N2 I/O (io), N3 I/O (io), N4 I/O (io), N5 I/O (io), N31 I/O (io), N32 I/O (io), P1 I/O (io), P2 I/O (io), P3 I/O (io), P31 I/O (io), P32 I/O (io), P34 I/O (io), P35 I/O (io), R1 I/O (io), R3 I/O (io), R4 I/O (io), R5 I/O (io), R31 I/O (io), R33 I/O (io), R34 I/O (io), R35 I/O (io), T1 I/O (io), T2 I/O (io), T3 I/O (io), T5 I/O (io), T31 I/O (io), T32 I/O (io), T33 I/O (io), T34 I/O (io), U1 I/O (io), U2 I/O (io), U4 I/O (io), U31 I/O (io), U32 I/O (io), U33 I/O (io), U35 I/O (io), V1 I/O (io), V2 I/O (io), V4 I/O (io), V5 I/O (io), V31 I/O (io), V33 I/O (io), V35 I/O (io), W2 I/O (io), W3 I/O (io), W4 I/O (io), W5 I/O (io), W32 I/O (io), W33 I/O (io), W34 I/O (io), Y1 I/O (io), Y3 I/O (io), Y4 I/O (io), Y5 I/O (io), Y32 I/O (io), Y33 I/O (io), Y34 I/O (io), Y35 I/O (io)
part C pins: AJ5 I/O (io), AJ31 I/O (io), AJ33 I/O (io), AJ34 I/O (io), AJ35 I/O (io), AK1 I/O (io), AK3 I/O (io), AK4 I/O (io), AK5 I/O (io), AK33 I/O (io), AK34 I/O (io), AL1 I/O (io), AL2 I/O (io), AL4 I/O (io), AL7 I/O (io), AL8 I/O (io), AL9 I/O (io), AL10 I/O (io), AL11 I/O (io), AL13 I/O (io), AL14 I/O (io), AL15 I/O (io), AL16 I/O (io), AL17 I/O (io), AL19 I/O (io), AL20 I/O (io), AL21 I/O (io), AL22 I/O (io), AL23 I/O (io), AL24 I/O (io), AL25 I/O (io), AL26 I/O (io), AL27 I/O (io), AL28 I/O (io), AL32 I/O (io), AL34 I/O (io), AL35 I/O (io), AM1 I/O (io), AM2 I/O (io), AM3 I/O (io), AM7 I/O (io), AM8 I/O (io), AM9 I/O (io), AM10 I/O (io), AM12 I/O (io), AM14 I/O (io), AM15 I/O (io), AM16 I/O (io), AM17 I/O (io), AM20 I/O (io), AM21 I/O (io), AM22 I/O (io), AM23 I/O (io), AM24 I/O (io), AM25 I/O (io), AM27 I/O (io), AM29 I/O (io), AM33 I/O (io), AM35 I/O (io), AN7 I/O (io), AN9 I/O (io), AN11 I/O (io), AN13 I/O (io), AN14 I/O (io), AN16 I/O (io), AN17 I/O (io), AN19 I/O (io), AN20 I/O (io), AN21 I/O (io), AN22 I/O (io), AN23 I/O (io), AN24 I/O (io), AN25 I/O (io), AN26 I/O (io), AN27 I/O (io), AN28 I/O (io), AP7 I/O (io), AP8 I/O (io), AP9 I/O (io), AP10 I/O (io), AP12 I/O (io), AP13 I/O (io), AP14 I/O (io), AP15 I/O (io), AP16 I/O (io), AP17 I/O (io), AP18 I/O (io), AP19 I/O (io), AP20 I/O (io), AP21 I/O (io), AP22 I/O (io), AP23 I/O (io), AP25 I/O (io), AP26 I/O (io), AP27 I/O (io), AP28 I/O (io), AP29 I/O (io), AR6 I/O (io), AR7 I/O (io), AR8 I/O (io), AR9 I/O (io), AR13 I/O (io), AR14 I/O (io), AR15 I/O (io), AR16 I/O (io), AR20 I/O (io), AR21 I/O (io), AR22 I/O (io), AR24 I/O (io), AR25 I/O (io), AR26 I/O (io), AR27 I/O (io), AR28 I/O (io)
part D pins: A23 LOCK (io), AE32 INIT_DONE (io), AG35 RDYnBSY (io), AL18 CLK (in), AL29 nCS (io), AL31 TCK (in), AM4 DATA0 (in), AM11 DATA3 (io), AM13 DATA7 (io), AM18 INPUT (in), AM28 nRS (io), AM32 CONF_DONE (in), AM34 CLKUSR (io), AN1 TDI (in), AN2 nCE (in), AN10 DATA1 (io), AN12 DATA5 (io), AN18 INPUT (in), AN29 CS (io), AN34 TDO (out), AP1 DCLK (in), AP11 DATA4 (io), AP35 nCEO (out), AR10 DATA2 (io), AR12 DATA6 (io), AR17 DEV_CLRn (io), AR19 DEV_OE (io), AR29 nWS (io), C1 MSEL1 (in), C18 INPUT (in), C34 TRST (in), C35 TMS (in), D4 nCONFIG (in), D18 INPUT (in), D32 nSTATUS (in), E18 CLK/GCLK1 (in), F5 MSEL0 (in)
part E pins: A1 GNDINT (power), A2 GNDINT (power), A3 GNDINT (power), A4 GNDINT (power), A5 GNDINT (power), A11 VCCINT (power), A18 GND_CKLK (power), A19 VCCINT (power), A20 VCCIO (power), A27 VCCIO (power), A31 GNDINT (power), A32 GNDINT (power), A33 GNDINT (power), A34 GNDINT (power), A35 GNDINT (power), AA33 VCCINT (power), AB5 VCCINT (power), AD35 VCCINT (power), AE4 VCCINT (power), AF32 VCCINT (power), AG5 VCCINT (power), AK31 VCCINT (power), AK35 VCCINT (power), AL3 VCCINT (power), AL5 VCCIO (power), AL6 GNDINT (power), AL12 VCCIO (power), AL30 GNDINT (power), AM5 VCCIO (power), AM6 GNDINT (power), AM19 VCCIO (power), AM26 VCCIO (power), AM30 GNDINT (power), AM31 VCCIO (power), AN3 VCCIO (power), AN4 VCCIO (power), AN5 GNDINT (power), AN6 GNDINT (power), AN8 VCCIO (power), AN15 VCCIO (power), AN30 GNDINT (power), AN31 GNDINT (power), AN32 VCCIO (power), AN33 VCCIO (power), AN35 GNDINT (power), AP2 GNDINT (power), AP3 GNDINT (power), AP4 GNDINT (power), AP5 GNDINT (power), AP6 GNDINT (power), AP24 VCCINT (power), AP30 GNDINT (power), AP31 GNDINT (power), AP32 GNDINT (power), AP33 GNDINT (power), AP34 VCCIO (power), AR1 GNDINT (power), AR2 GNDINT (power), AR3 GNDINT (power), AR4 GNDINT (power), AR5 GNDINT (power), AR11 VCCINT (power), AR18 VCCINT (power), AR23 VCCIO (power), AR30 GNDINT (power), AR31 GNDINT (power), AR32 GNDINT (power), AR33 GNDINT (power), AR34 GNDINT (power), AR35 GNDINT (power), B1 VCCINT (power), B2 GNDINT (power), B3 GNDINT (power), B4 GNDINT (power), B5 GNDINT (power), B6 GNDINT (power), B18 VCC_CKLK (power), B31 GNDINT (power), B32 GNDINT (power), B33 GNDINT (power), B34 GNDINT (power), B35 GNDINT (power), C2 VCCIO (power), C3 VCCIO (power), C4 VCCIO (power), C5 GNDINT (power), C6 GNDINT (power), C8 VCCIO (power), C15 VCCIO (power), C23 VCCIO (power), C30 GNDINT (power), C31 GNDINT (power), C32 VCCIO (power), C33 VCCIO (power), D5 VCCIO (power), D6 GNDINT (power), D24 VCCINT (power), D30 GNDINT (power), D31 VCCIO (power), E2 VCCINT (power), E5 VCCIO (power), E6 GNDINT (power), E12 VCCIO (power), E30 GNDINT (power), E31 VCCIO (power), F31 VCCINT (power), F35 VCCINT (power), H1 VCCINT (power), K32 VCCINT (power), M2 VCCINT (power), N34 VCCINT (power), P5 VCCINT (power), T35 VCCINT (power), U3 VCCINT (power), V32 VCCINT (power), Y2 VCCINT (power)
part F pins: AA2 NC, AA34 NC, AB1 NC, AB31 NC, AB34 NC, AB35 NC, AC31 NC, AC34 NC, AE33 NC, AE35 NC, AF1 NC, AG3 NC, AH2 NC, AJ32 NC, AK2 NC, AK32 NC, AL33 NC, D3 NC, D35 NC, E1 NC, F34 NC, G2 NC, H5 NC, J3 NC, J4 NC, J32 NC, K1 NC, L4 NC, L31 NC, M3 NC, N1 NC, N33 NC, N35 NC, P4 NC, P33 NC, R2 NC, R32 NC, T4 NC, U5 NC, U34 NC, V3 NC, V34 NC, W1 NC, W31 NC, W35 NC, Y31 NC

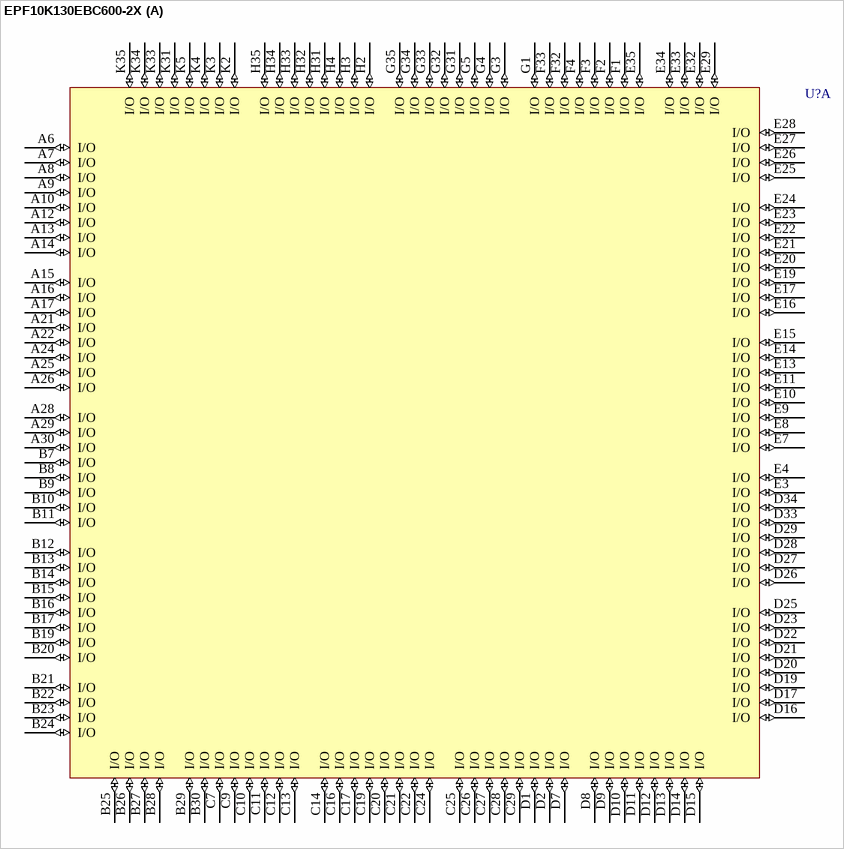
[diagram p276: symbol EPF10K130EBC600-2X]

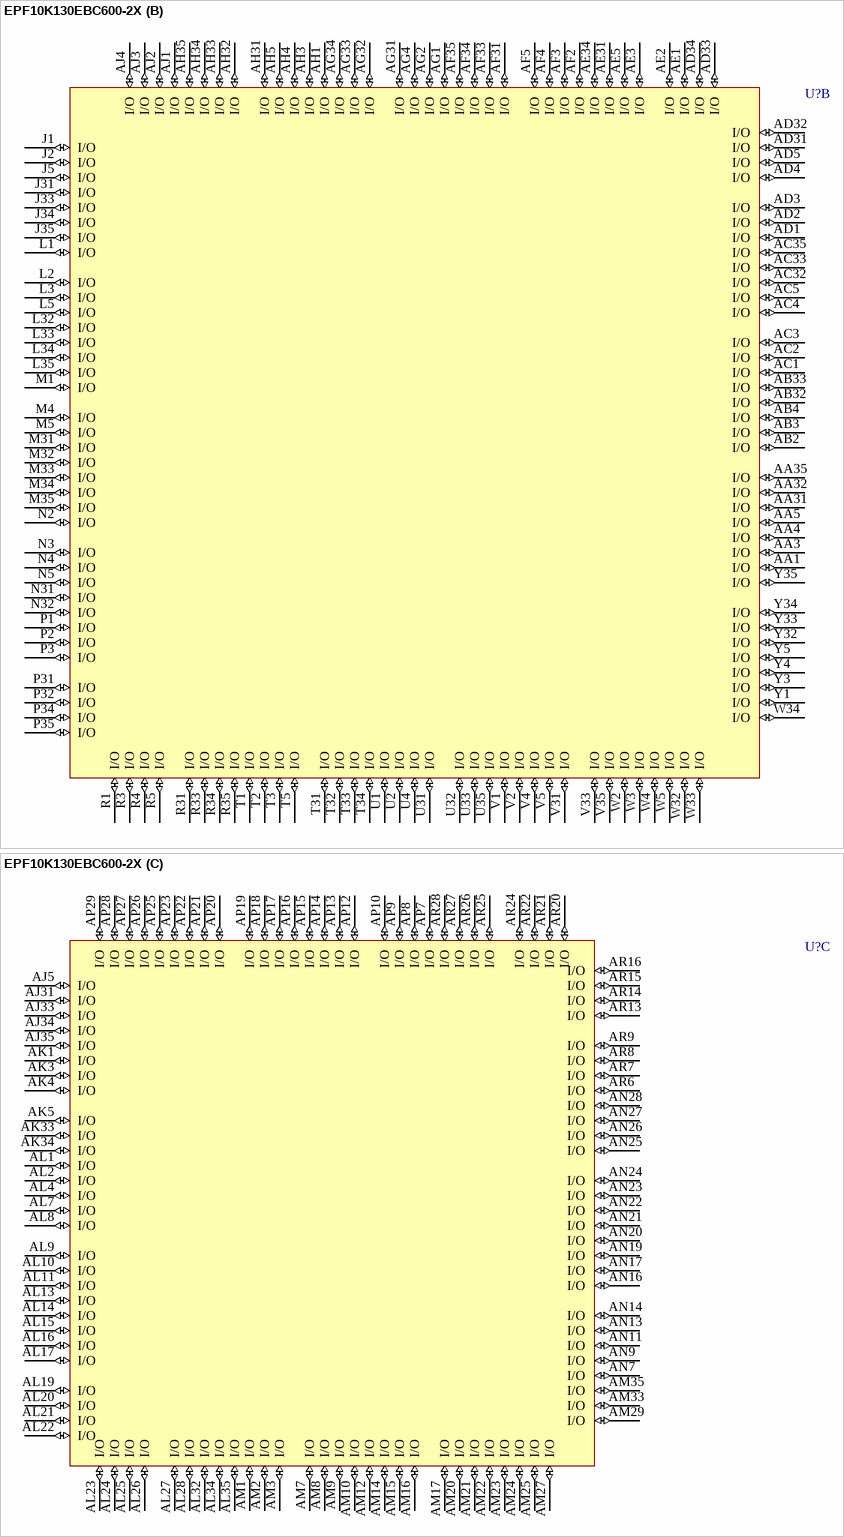
[diagram p277: symbol EPF10K130EBC600-2X]

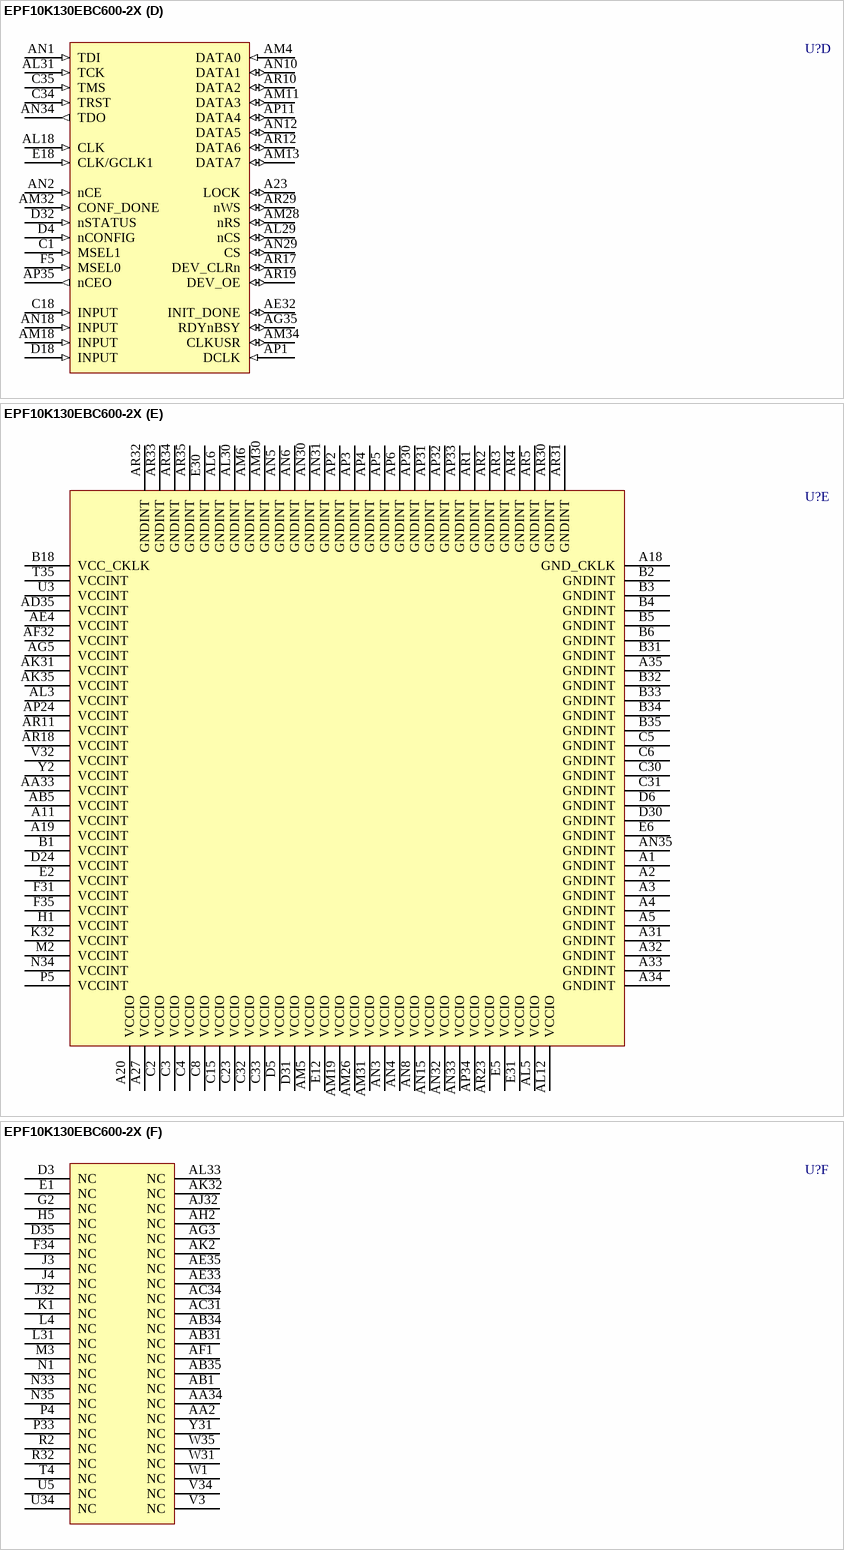
[diagram p278: symbol EPF10K130EBC600-2X]

## EPF10K130EBC600-2X
designator U?
FLEX EPF10K130E 2.5V Embedded PLD, 424 User IO Pins, 600-Pin BGA, Speed Grade 2, Commercial Grade; Published: 17-Jul-2002; LatestRevisionDate: 13-Apr-2006; LatestRevisionNote: IPC-7351 Footprint Added.; DatasheetVersion: ver2.5, Jan-2003; PackageVersion: ver14.1, Oct-2005; PackageReference: BGA600; Publisher: Altium Limited; PackageDescription: 600-Ball Ball Grid Array (BGA600); Code_JEDEC: MO-192-BAW-1 (Depopulated); ComponentLink1Description: Manufacturer Link; ComponentLink1URL: http://www.altera.com/products/devices/flex10k/f10-index.html; ComponentLink2Description: Datasheet; ComponentLink2URL: http://www.altera.com/literature/ds/dsf10ke.pdf
footprint BGA600 (BGA, 600-Leads, Body 45x45mm, Pitch 1.27mm)
3D model EPF10K130E-BGA600 (600-Ball Ball Grid Array (BGA600))
part A pins: A6 I/O (io), A7 I/O (io), A8 I/O (io), A9 I/O (io), A10 I/O (io), A12 I/O (io), A13 I/O (io), A14 I/O (io), A15 I/O (io), A16 I/O (io), A17 I/O (io), A21 I/O (io), A22 I/O (io), A24 I/O (io), A25 I/O (io), A26 I/O (io), A28 I/O (io), A29 I/O (io), A30 I/O (io), B7 I/O (io), B8 I/O (io), B9 I/O (io), B10 I/O (io), B11 I/O (io), B12 I/O (io), B13 I/O (io), B14 I/O (io), B15 I/O (io), B16 I/O (io), B17 I/O (io), B19 I/O (io), B20 I/O (io), B21 I/O (io), B22 I/O (io), B23 I/O (io), B24 I/O (io), B25 I/O (io), B26 I/O (io), B27 I/O (io), B28 I/O (io), B29 I/O (io), B30 I/O (io), C7 I/O (io), C9 I/O (io), C10 I/O (io), C11 I/O (io), C12 I/O (io), C13 I/O (io), C14 I/O (io), C16 I/O (io), C17 I/O (io), C19 I/O (io), C20 I/O (io), C21 I/O (io), C22 I/O (io), C24 I/O (io), C25 I/O (io), C26 I/O (io), C27 I/O (io), C28 I/O (io), C29 I/O (io), D1 I/O (io), D2 I/O (io), D7 I/O (io), D8 I/O (io), D9 I/O (io), D10 I/O (io), D11 I/O (io), D12 I/O (io), D13 I/O (io), D14 I/O (io), D15 I/O (io), D16 I/O (io), D17 I/O (io), D19 I/O (io), D20 I/O (io), D21 I/O (io), D22 I/O (io), D23 I/O (io), D25 I/O (io), D26 I/O (io), D27 I/O (io), D28 I/O (io), D29 I/O (io), D33 I/O (io), D34 I/O (io), E3 I/O (io), E4 I/O (io), E7 I/O (io), E8 I/O (io), E9 I/O (io), E10 I/O (io), E11 I/O (io), E13 I/O (io), E14 I/O (io), E15 I/O (io), E16 I/O (io), E17 I/O (io), E19 I/O (io), E20 I/O (io), E21 I/O (io), E22 I/O (io), E23 I/O (io), E24 I/O (io), E25 I/O (io), E26 I/O (io), E27 I/O (io), E28 I/O (io), E29 I/O (io), E32 I/O (io), E33 I/O (io), E34 I/O (io), E35 I/O (io), F1 I/O (io), F2 I/O (io), F3 I/O (io), F4 I/O (io), F32 I/O (io), F33 I/O (io), G1 I/O (io), G3 I/O (io), G4 I/O (io), G5 I/O (io), G31 I/O (io), G32 I/O (io), G33 I/O (io), G34 I/O (io), G35 I/O (io), H2 I/O (io), H3 I/O (io), H4 I/O (io), H31 I/O (io), H32 I/O (io), H33 I/O (io), H34 I/O (io), H35 I/O (io), K2 I/O (io), K3 I/O (io), K4 I/O (io), K5 I/O (io), K31 I/O (io), K33 I/O (io), K34 I/O (io), K35 I/O (io)
part B pins: AA1 I/O (io), AA3 I/O (io), AA4 I/O (io), AA5 I/O (io), AA31 I/O (io), AA32 I/O (io), AA35 I/O (io), AB2 I/O (io), AB3 I/O (io), AB4 I/O (io), AB32 I/O (io), AB33 I/O (io), AC1 I/O (io), AC2 I/O (io), AC3 I/O (io), AC4 I/O (io), AC5 I/O (io), AC32 I/O (io), AC33 I/O (io), AC35 I/O (io), AD1 I/O (io), AD2 I/O (io), AD3 I/O (io), AD4 I/O (io), AD5 I/O (io), AD31 I/O (io), AD32 I/O (io), AD33 I/O (io), AD34 I/O (io), AE1 I/O (io), AE2 I/O (io), AE3 I/O (io), AE5 I/O (io), AE31 I/O (io), AE34 I/O (io), AF2 I/O (io), AF3 I/O (io), AF4 I/O (io), AF5 I/O (io), AF31 I/O (io), AF33 I/O (io), AF34 I/O (io), AF35 I/O (io), AG1 I/O (io), AG2 I/O (io), AG4 I/O (io), AG31 I/O (io), AG32 I/O (io), AG33 I/O (io), AG34 I/O (io), AH1 I/O (io), AH3 I/O (io), AH4 I/O (io), AH5 I/O (io), AH31 I/O (io), AH32 I/O (io), AH33 I/O (io), AH34 I/O (io), AH35 I/O (io), AJ1 I/O (io), AJ2 I/O (io), AJ3 I/O (io), AJ4 I/O (io), J1 I/O (io), J2 I/O (io), J5 I/O (io), J31 I/O (io), J33 I/O (io), J34 I/O (io), J35 I/O (io), L1 I/O (io), L2 I/O (io), L3 I/O (io), L5 I/O (io), L32 I/O (io), L33 I/O (io), L34 I/O (io), L35 I/O (io), M1 I/O (io), M4 I/O (io), M5 I/O (io), M31 I/O (io), M32 I/O (io), M33 I/O (io), M34 I/O (io), M35 I/O (io), N2 I/O (io), N3 I/O (io), N4 I/O (io), N5 I/O (io), N31 I/O (io), N32 I/O (io), P1 I/O (io), P2 I/O (io), P3 I/O (io), P31 I/O (io), P32 I/O (io), P34 I/O (io), P35 I/O (io), R1 I/O (io), R3 I/O (io), R4 I/O (io), R5 I/O (io), R31 I/O (io), R33 I/O (io), R34 I/O (io), R35 I/O (io), T1 I/O (io), T2 I/O (io), T3 I/O (io), T5 I/O (io), T31 I/O (io), T32 I/O (io), T33 I/O (io), T34 I/O (io), U1 I/O (io), U2 I/O (io), U4 I/O (io), U31 I/O (io), U32 I/O (io), U33 I/O (io), U35 I/O (io), V1 I/O (io), V2 I/O (io), V4 I/O (io), V5 I/O (io), V31 I/O (io), V33 I/O (io), V35 I/O (io), W2 I/O (io), W3 I/O (io), W4 I/O (io), W5 I/O (io), W32 I/O (io), W33 I/O (io), W34 I/O (io), Y1 I/O (io), Y3 I/O (io), Y4 I/O (io), Y5 I/O (io), Y32 I/O (io), Y33 I/O (io), Y34 I/O (io), Y35 I/O (io)
part C pins: AJ5 I/O (io), AJ31 I/O (io), AJ33 I/O (io), AJ34 I/O (io), AJ35 I/O (io), AK1 I/O (io), AK3 I/O (io), AK4 I/O (io), AK5 I/O (io), AK33 I/O (io), AK34 I/O (io), AL1 I/O (io), AL2 I/O (io), AL4 I/O (io), AL7 I/O (io), AL8 I/O (io), AL9 I/O (io), AL10 I/O (io), AL11 I/O (io), AL13 I/O (io), AL14 I/O (io), AL15 I/O (io), AL16 I/O (io), AL17 I/O (io), AL19 I/O (io), AL20 I/O (io), AL21 I/O (io), AL22 I/O (io), AL23 I/O (io), AL24 I/O (io), AL25 I/O (io), AL26 I/O (io), AL27 I/O (io), AL28 I/O (io), AL32 I/O (io), AL34 I/O (io), AL35 I/O (io), AM1 I/O (io), AM2 I/O (io), AM3 I/O (io), AM7 I/O (io), AM8 I/O (io), AM9 I/O (io), AM10 I/O (io), AM12 I/O (io), AM14 I/O (io), AM15 I/O (io), AM16 I/O (io), AM17 I/O (io), AM20 I/O (io), AM21 I/O (io), AM22 I/O (io), AM23 I/O (io), AM24 I/O (io), AM25 I/O (io), AM27 I/O (io), AM29 I/O (io), AM33 I/O (io), AM35 I/O (io), AN7 I/O (io), AN9 I/O (io), AN11 I/O (io), AN13 I/O (io), AN14 I/O (io), AN16 I/O (io), AN17 I/O (io), AN19 I/O (io), AN20 I/O (io), AN21 I/O (io), AN22 I/O (io), AN23 I/O (io), AN24 I/O (io), AN25 I/O (io), AN26 I/O (io), AN27 I/O (io), AN28 I/O (io), AP7 I/O (io), AP8 I/O (io), AP9 I/O (io), AP10 I/O (io), AP12 I/O (io), AP13 I/O (io), AP14 I/O (io), AP15 I/O (io), AP16 I/O (io), AP17 I/O (io), AP18 I/O (io), AP19 I/O (io), AP20 I/O (io), AP21 I/O (io), AP22 I/O (io), AP23 I/O (io), AP25 I/O (io), AP26 I/O (io), AP27 I/O (io), AP28 I/O (io), AP29 I/O (io), AR6 I/O (io), AR7 I/O (io), AR8 I/O (io), AR9 I/O (io), AR13 I/O (io), AR14 I/O (io), AR15 I/O (io), AR16 I/O (io), AR20 I/O (io), AR21 I/O (io), AR22 I/O (io), AR24 I/O (io), AR25 I/O (io), AR26 I/O (io), AR27 I/O (io), AR28 I/O (io)
part D pins: A23 LOCK (io), AE32 INIT_DONE (io), AG35 RDYnBSY (io), AL18 CLK (in), AL29 nCS (io), AL31 TCK (in), AM4 DATA0 (in), AM11 DATA3 (io), AM13 DATA7 (io), AM18 INPUT (in), AM28 nRS (io), AM32 CONF_DONE (in), AM34 CLKUSR (io), AN1 TDI (in), AN2 nCE (in), AN10 DATA1 (io), AN12 DATA5 (io), AN18 INPUT (in), AN29 CS (io), AN34 TDO (out), AP1 DCLK (in), AP11 DATA4 (io), AP35 nCEO (out), AR10 DATA2 (io), AR12 DATA6 (io), AR17 DEV_CLRn (io), AR19 DEV_OE (io), AR29 nWS (io), C1 MSEL1 (in), C18 INPUT (in), C34 TRST (in), C35 TMS (in), D4 nCONFIG (in), D18 INPUT (in), D32 nSTATUS (in), E18 CLK/GCLK1 (in), F5 MSEL0 (in)
part E pins: A1 GNDINT (power), A2 GNDINT (power), A3 GNDINT (power), A4 GNDINT (power), A5 GNDINT (power), A11 VCCINT (power), A18 GND_CKLK (power), A19 VCCINT (power), A20 VCCIO (power), A27 VCCIO (power), A31 GNDINT (power), A32 GNDINT (power), A33 GNDINT (power), A34 GNDINT (power), A35 GNDINT (power), AA33 VCCINT (power), AB5 VCCINT (power), AD35 VCCINT (power), AE4 VCCINT (power), AF32 VCCINT (power), AG5 VCCINT (power), AK31 VCCINT (power), AK35 VCCINT (power), AL3 VCCINT (power), AL5 VCCIO (power), AL6 GNDINT (power), AL12 VCCIO (power), AL30 GNDINT (power), AM5 VCCIO (power), AM6 GNDINT (power), AM19 VCCIO (power), AM26 VCCIO (power), AM30 GNDINT (power), AM31 VCCIO (power), AN3 VCCIO (power), AN4 VCCIO (power), AN5 GNDINT (power), AN6 GNDINT (power), AN8 VCCIO (power), AN15 VCCIO (power), AN30 GNDINT (power), AN31 GNDINT (power), AN32 VCCIO (power), AN33 VCCIO (power), AN35 GNDINT (power), AP2 GNDINT (power), AP3 GNDINT (power), AP4 GNDINT (power), AP5 GNDINT (power), AP6 GNDINT (power), AP24 VCCINT (power), AP30 GNDINT (power), AP31 GNDINT (power), AP32 GNDINT (power), AP33 GNDINT (power), AP34 VCCIO (power), AR1 GNDINT (power), AR2 GNDINT (power), AR3 GNDINT (power), AR4 GNDINT (power), AR5 GNDINT (power), AR11 VCCINT (power), AR18 VCCINT (power), AR23 VCCIO (power), AR30 GNDINT (power), AR31 GNDINT (power), AR32 GNDINT (power), AR33 GNDINT (power), AR34 GNDINT (power), AR35 GNDINT (power), B1 VCCINT (power), B2 GNDINT (power), B3 GNDINT (power), B4 GNDINT (power), B5 GNDINT (power), B6 GNDINT (power), B18 VCC_CKLK (power), B31 GNDINT (power), B32 GNDINT (power), B33 GNDINT (power), B34 GNDINT (power), B35 GNDINT (power), C2 VCCIO (power), C3 VCCIO (power), C4 VCCIO (power), C5 GNDINT (power), C6 GNDINT (power), C8 VCCIO (power), C15 VCCIO (power), C23 VCCIO (power), C30 GNDINT (power), C31 GNDINT (power), C32 VCCIO (power), C33 VCCIO (power), D5 VCCIO (power), D6 GNDINT (power), D24 VCCINT (power), D30 GNDINT (power), D31 VCCIO (power), E2 VCCINT (power), E5 VCCIO (power), E6 GNDINT (power), E12 VCCIO (power), E30 GNDINT (power), E31 VCCIO (power), F31 VCCINT (power), F35 VCCINT (power), H1 VCCINT (power), K32 VCCINT (power), M2 VCCINT (power), N34 VCCINT (power), P5 VCCINT (power), T35 VCCINT (power), U3 VCCINT (power), V32 VCCINT (power), Y2 VCCINT (power)
part F pins: AA2 NC, AA34 NC, AB1 NC, AB31 NC, AB34 NC, AB35 NC, AC31 NC, AC34 NC, AE33 NC, AE35 NC, AF1 NC, AG3 NC, AH2 NC, AJ32 NC, AK2 NC, AK32 NC, AL33 NC, D3 NC, D35 NC, E1 NC, F34 NC, G2 NC, H5 NC, J3 NC, J4 NC, J32 NC, K1 NC, L4 NC, L31 NC, M3 NC, N1 NC, N33 NC, N35 NC, P4 NC, P33 NC, R2 NC, R32 NC, T4 NC, U5 NC, U34 NC, V3 NC, V34 NC, W1 NC, W31 NC, W35 NC, Y31 NC

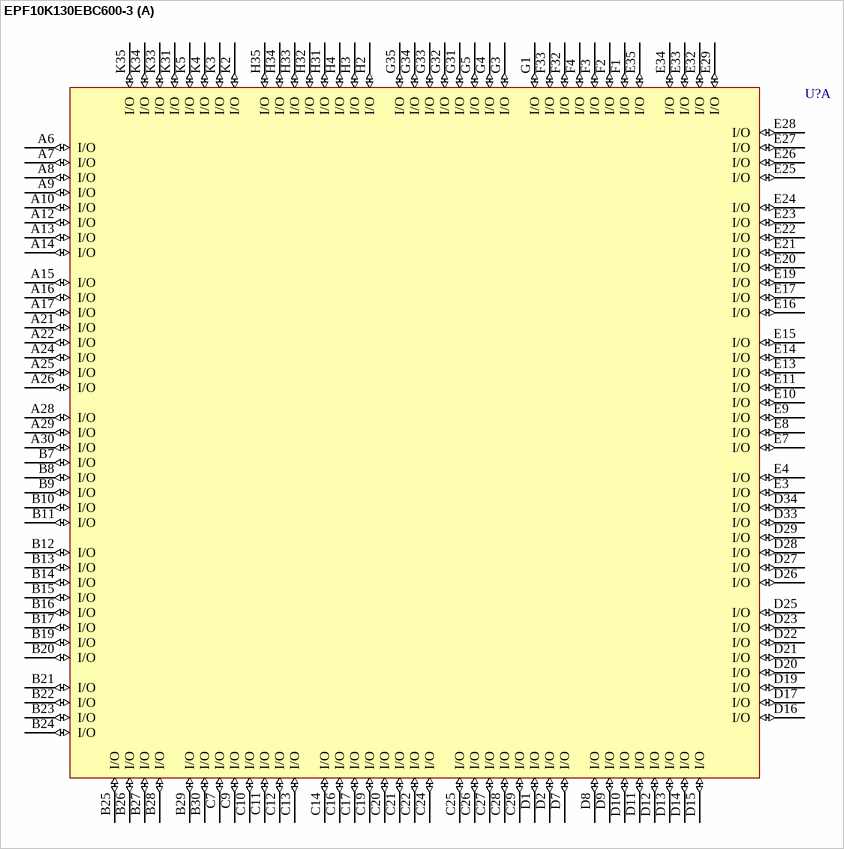
[diagram p279: symbol EPF10K130EBC600-3]

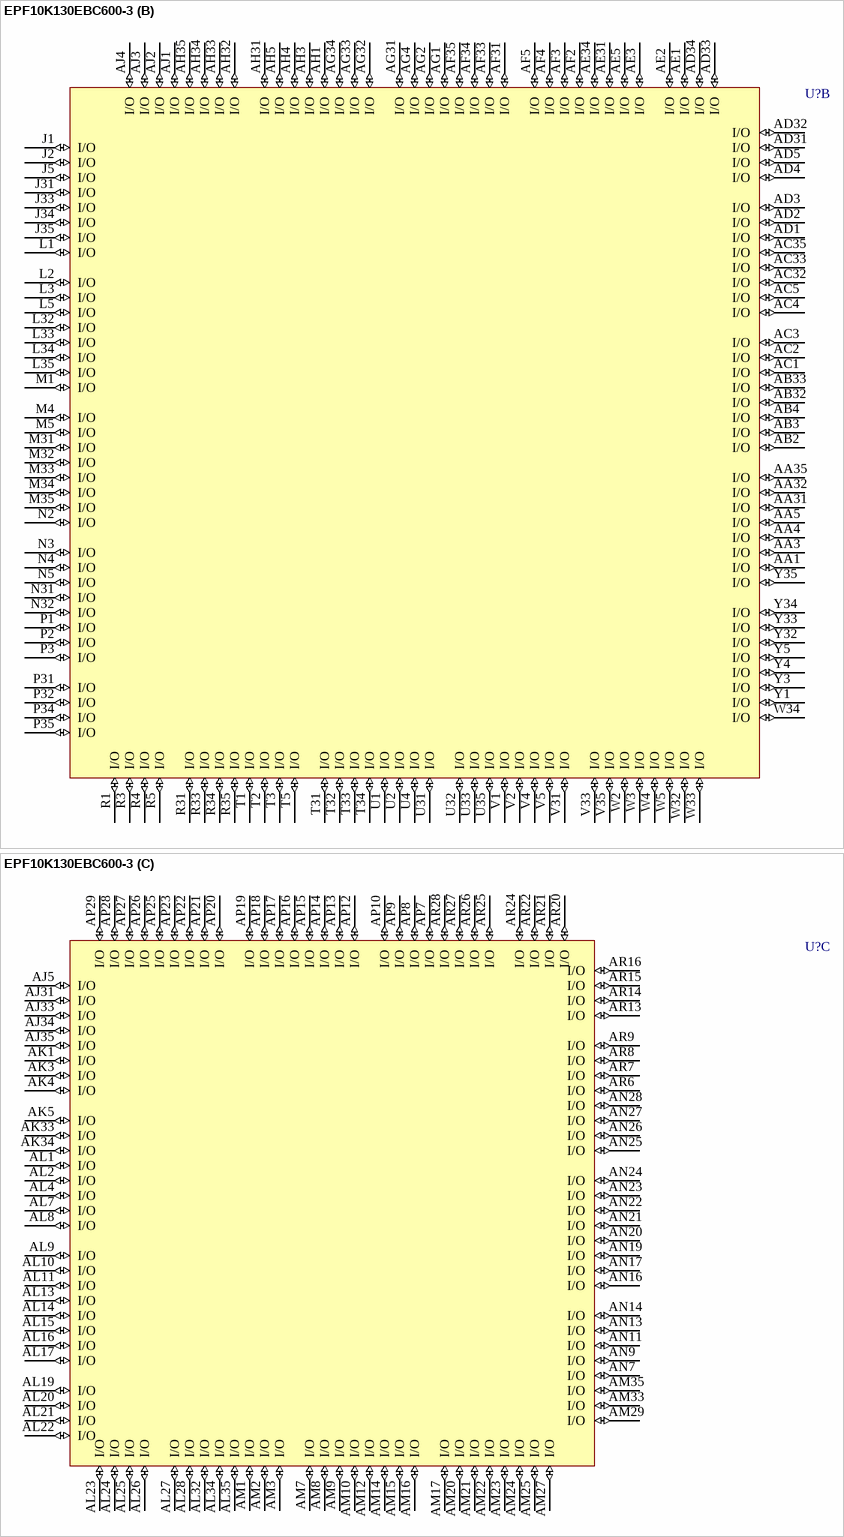
[diagram p280: symbol EPF10K130EBC600-3]

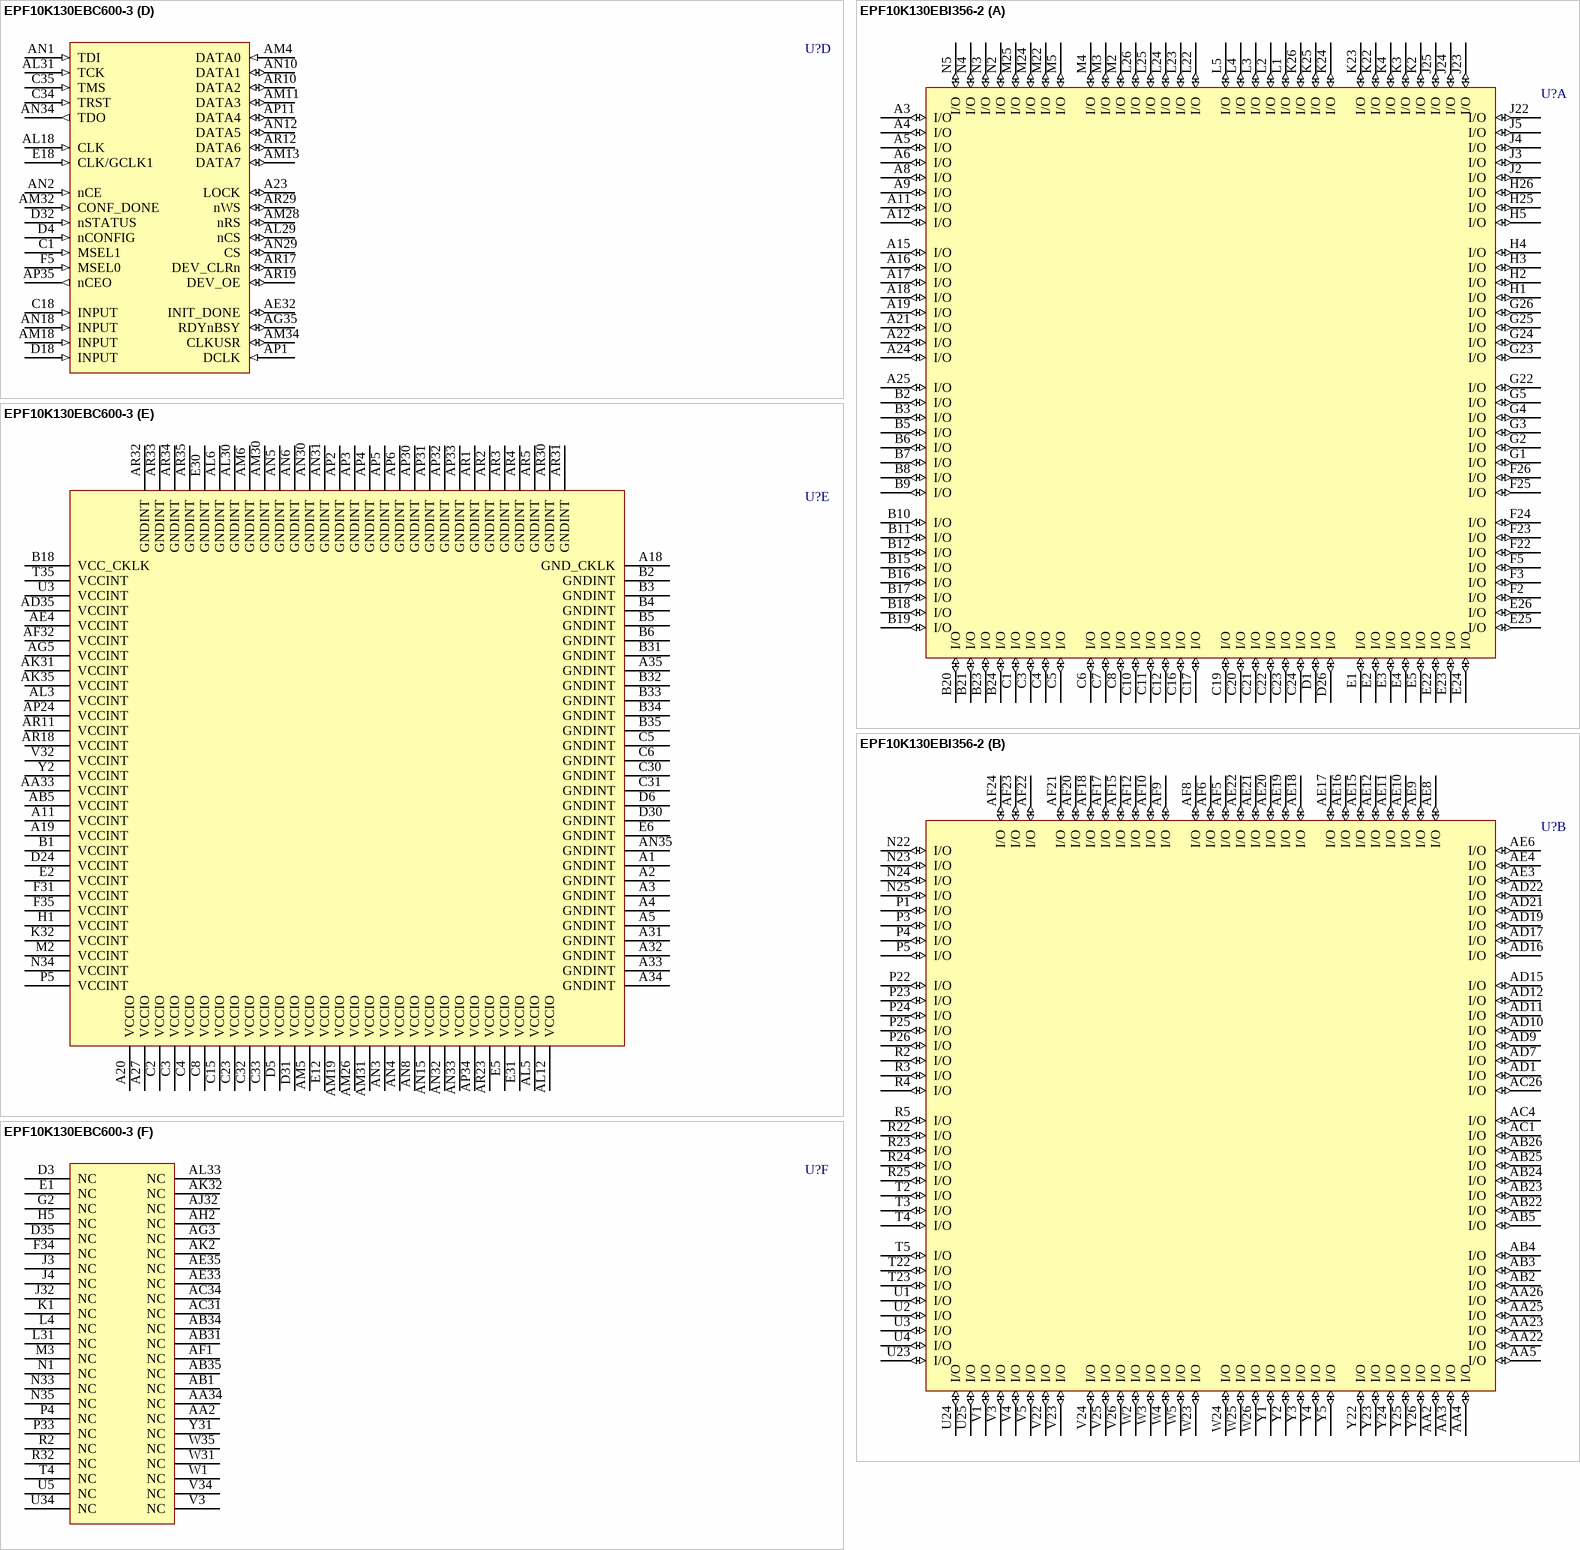
[diagram p281: symbols EPF10K130EBC600-3 to EPF10K130EBI356-2]

## EPF10K130EBC600-3
designator U?
FLEX EPF10K130E 2.5V Embedded PLD, 424 User IO Pins, 600-Pin BGA, Speed Grade 3, Commercial Grade; Published: 17-Jul-2002; LatestRevisionDate: 13-Apr-2006; LatestRevisionNote: IPC-7351 Footprint Added.; DatasheetVersion: ver2.5, Jan-2003; PackageVersion: ver14.1, Oct-2005; PackageReference: BGA600; Publisher: Altium Limited; PackageDescription: 600-Ball Ball Grid Array (BGA600); Code_JEDEC: MO-192-BAW-1 (Depopulated); ComponentLink1Description: Manufacturer Link; ComponentLink1URL: http://www.altera.com/products/devices/flex10k/f10-index.html; ComponentLink2Description: Datasheet; ComponentLink2URL: http://www.altera.com/literature/ds/dsf10ke.pdf
footprint BGA600 (BGA, 600-Leads, Body 45x45mm, Pitch 1.27mm)
3D model EPF10K130E-BGA600 (600-Ball Ball Grid Array (BGA600))
part A pins: A6 I/O (io), A7 I/O (io), A8 I/O (io), A9 I/O (io), A10 I/O (io), A12 I/O (io), A13 I/O (io), A14 I/O (io), A15 I/O (io), A16 I/O (io), A17 I/O (io), A21 I/O (io), A22 I/O (io), A24 I/O (io), A25 I/O (io), A26 I/O (io), A28 I/O (io), A29 I/O (io), A30 I/O (io), B7 I/O (io), B8 I/O (io), B9 I/O (io), B10 I/O (io), B11 I/O (io), B12 I/O (io), B13 I/O (io), B14 I/O (io), B15 I/O (io), B16 I/O (io), B17 I/O (io), B19 I/O (io), B20 I/O (io), B21 I/O (io), B22 I/O (io), B23 I/O (io), B24 I/O (io), B25 I/O (io), B26 I/O (io), B27 I/O (io), B28 I/O (io), B29 I/O (io), B30 I/O (io), C7 I/O (io), C9 I/O (io), C10 I/O (io), C11 I/O (io), C12 I/O (io), C13 I/O (io), C14 I/O (io), C16 I/O (io), C17 I/O (io), C19 I/O (io), C20 I/O (io), C21 I/O (io), C22 I/O (io), C24 I/O (io), C25 I/O (io), C26 I/O (io), C27 I/O (io), C28 I/O (io), C29 I/O (io), D1 I/O (io), D2 I/O (io), D7 I/O (io), D8 I/O (io), D9 I/O (io), D10 I/O (io), D11 I/O (io), D12 I/O (io), D13 I/O (io), D14 I/O (io), D15 I/O (io), D16 I/O (io), D17 I/O (io), D19 I/O (io), D20 I/O (io), D21 I/O (io), D22 I/O (io), D23 I/O (io), D25 I/O (io), D26 I/O (io), D27 I/O (io), D28 I/O (io), D29 I/O (io), D33 I/O (io), D34 I/O (io), E3 I/O (io), E4 I/O (io), E7 I/O (io), E8 I/O (io), E9 I/O (io), E10 I/O (io), E11 I/O (io), E13 I/O (io), E14 I/O (io), E15 I/O (io), E16 I/O (io), E17 I/O (io), E19 I/O (io), E20 I/O (io), E21 I/O (io), E22 I/O (io), E23 I/O (io), E24 I/O (io), E25 I/O (io), E26 I/O (io), E27 I/O (io), E28 I/O (io), E29 I/O (io), E32 I/O (io), E33 I/O (io), E34 I/O (io), E35 I/O (io), F1 I/O (io), F2 I/O (io), F3 I/O (io), F4 I/O (io), F32 I/O (io), F33 I/O (io), G1 I/O (io), G3 I/O (io), G4 I/O (io), G5 I/O (io), G31 I/O (io), G32 I/O (io), G33 I/O (io), G34 I/O (io), G35 I/O (io), H2 I/O (io), H3 I/O (io), H4 I/O (io), H31 I/O (io), H32 I/O (io), H33 I/O (io), H34 I/O (io), H35 I/O (io), K2 I/O (io), K3 I/O (io), K4 I/O (io), K5 I/O (io), K31 I/O (io), K33 I/O (io), K34 I/O (io), K35 I/O (io)
part B pins: AA1 I/O (io), AA3 I/O (io), AA4 I/O (io), AA5 I/O (io), AA31 I/O (io), AA32 I/O (io), AA35 I/O (io), AB2 I/O (io), AB3 I/O (io), AB4 I/O (io), AB32 I/O (io), AB33 I/O (io), AC1 I/O (io), AC2 I/O (io), AC3 I/O (io), AC4 I/O (io), AC5 I/O (io), AC32 I/O (io), AC33 I/O (io), AC35 I/O (io), AD1 I/O (io), AD2 I/O (io), AD3 I/O (io), AD4 I/O (io), AD5 I/O (io), AD31 I/O (io), AD32 I/O (io), AD33 I/O (io), AD34 I/O (io), AE1 I/O (io), AE2 I/O (io), AE3 I/O (io), AE5 I/O (io), AE31 I/O (io), AE34 I/O (io), AF2 I/O (io), AF3 I/O (io), AF4 I/O (io), AF5 I/O (io), AF31 I/O (io), AF33 I/O (io), AF34 I/O (io), AF35 I/O (io), AG1 I/O (io), AG2 I/O (io), AG4 I/O (io), AG31 I/O (io), AG32 I/O (io), AG33 I/O (io), AG34 I/O (io), AH1 I/O (io), AH3 I/O (io), AH4 I/O (io), AH5 I/O (io), AH31 I/O (io), AH32 I/O (io), AH33 I/O (io), AH34 I/O (io), AH35 I/O (io), AJ1 I/O (io), AJ2 I/O (io), AJ3 I/O (io), AJ4 I/O (io), J1 I/O (io), J2 I/O (io), J5 I/O (io), J31 I/O (io), J33 I/O (io), J34 I/O (io), J35 I/O (io), L1 I/O (io), L2 I/O (io), L3 I/O (io), L5 I/O (io), L32 I/O (io), L33 I/O (io), L34 I/O (io), L35 I/O (io), M1 I/O (io), M4 I/O (io), M5 I/O (io), M31 I/O (io), M32 I/O (io), M33 I/O (io), M34 I/O (io), M35 I/O (io), N2 I/O (io), N3 I/O (io), N4 I/O (io), N5 I/O (io), N31 I/O (io), N32 I/O (io), P1 I/O (io), P2 I/O (io), P3 I/O (io), P31 I/O (io), P32 I/O (io), P34 I/O (io), P35 I/O (io), R1 I/O (io), R3 I/O (io), R4 I/O (io), R5 I/O (io), R31 I/O (io), R33 I/O (io), R34 I/O (io), R35 I/O (io), T1 I/O (io), T2 I/O (io), T3 I/O (io), T5 I/O (io), T31 I/O (io), T32 I/O (io), T33 I/O (io), T34 I/O (io), U1 I/O (io), U2 I/O (io), U4 I/O (io), U31 I/O (io), U32 I/O (io), U33 I/O (io), U35 I/O (io), V1 I/O (io), V2 I/O (io), V4 I/O (io), V5 I/O (io), V31 I/O (io), V33 I/O (io), V35 I/O (io), W2 I/O (io), W3 I/O (io), W4 I/O (io), W5 I/O (io), W32 I/O (io), W33 I/O (io), W34 I/O (io), Y1 I/O (io), Y3 I/O (io), Y4 I/O (io), Y5 I/O (io), Y32 I/O (io), Y33 I/O (io), Y34 I/O (io), Y35 I/O (io)
part C pins: AJ5 I/O (io), AJ31 I/O (io), AJ33 I/O (io), AJ34 I/O (io), AJ35 I/O (io), AK1 I/O (io), AK3 I/O (io), AK4 I/O (io), AK5 I/O (io), AK33 I/O (io), AK34 I/O (io), AL1 I/O (io), AL2 I/O (io), AL4 I/O (io), AL7 I/O (io), AL8 I/O (io), AL9 I/O (io), AL10 I/O (io), AL11 I/O (io), AL13 I/O (io), AL14 I/O (io), AL15 I/O (io), AL16 I/O (io), AL17 I/O (io), AL19 I/O (io), AL20 I/O (io), AL21 I/O (io), AL22 I/O (io), AL23 I/O (io), AL24 I/O (io), AL25 I/O (io), AL26 I/O (io), AL27 I/O (io), AL28 I/O (io), AL32 I/O (io), AL34 I/O (io), AL35 I/O (io), AM1 I/O (io), AM2 I/O (io), AM3 I/O (io), AM7 I/O (io), AM8 I/O (io), AM9 I/O (io), AM10 I/O (io), AM12 I/O (io), AM14 I/O (io), AM15 I/O (io), AM16 I/O (io), AM17 I/O (io), AM20 I/O (io), AM21 I/O (io), AM22 I/O (io), AM23 I/O (io), AM24 I/O (io), AM25 I/O (io), AM27 I/O (io), AM29 I/O (io), AM33 I/O (io), AM35 I/O (io), AN7 I/O (io), AN9 I/O (io), AN11 I/O (io), AN13 I/O (io), AN14 I/O (io), AN16 I/O (io), AN17 I/O (io), AN19 I/O (io), AN20 I/O (io), AN21 I/O (io), AN22 I/O (io), AN23 I/O (io), AN24 I/O (io), AN25 I/O (io), AN26 I/O (io), AN27 I/O (io), AN28 I/O (io), AP7 I/O (io), AP8 I/O (io), AP9 I/O (io), AP10 I/O (io), AP12 I/O (io), AP13 I/O (io), AP14 I/O (io), AP15 I/O (io), AP16 I/O (io), AP17 I/O (io), AP18 I/O (io), AP19 I/O (io), AP20 I/O (io), AP21 I/O (io), AP22 I/O (io), AP23 I/O (io), AP25 I/O (io), AP26 I/O (io), AP27 I/O (io), AP28 I/O (io), AP29 I/O (io), AR6 I/O (io), AR7 I/O (io), AR8 I/O (io), AR9 I/O (io), AR13 I/O (io), AR14 I/O (io), AR15 I/O (io), AR16 I/O (io), AR20 I/O (io), AR21 I/O (io), AR22 I/O (io), AR24 I/O (io), AR25 I/O (io), AR26 I/O (io), AR27 I/O (io), AR28 I/O (io)
part D pins: A23 LOCK (io), AE32 INIT_DONE (io), AG35 RDYnBSY (io), AL18 CLK (in), AL29 nCS (io), AL31 TCK (in), AM4 DATA0 (in), AM11 DATA3 (io), AM13 DATA7 (io), AM18 INPUT (in), AM28 nRS (io), AM32 CONF_DONE (in), AM34 CLKUSR (io), AN1 TDI (in), AN2 nCE (in), AN10 DATA1 (io), AN12 DATA5 (io), AN18 INPUT (in), AN29 CS (io), AN34 TDO (out), AP1 DCLK (in), AP11 DATA4 (io), AP35 nCEO (out), AR10 DATA2 (io), AR12 DATA6 (io), AR17 DEV_CLRn (io), AR19 DEV_OE (io), AR29 nWS (io), C1 MSEL1 (in), C18 INPUT (in), C34 TRST (in), C35 TMS (in), D4 nCONFIG (in), D18 INPUT (in), D32 nSTATUS (in), E18 CLK/GCLK1 (in), F5 MSEL0 (in)
part E pins: A1 GNDINT (power), A2 GNDINT (power), A3 GNDINT (power), A4 GNDINT (power), A5 GNDINT (power), A11 VCCINT (power), A18 GND_CKLK (power), A19 VCCINT (power), A20 VCCIO (power), A27 VCCIO (power), A31 GNDINT (power), A32 GNDINT (power), A33 GNDINT (power), A34 GNDINT (power), A35 GNDINT (power), AA33 VCCINT (power), AB5 VCCINT (power), AD35 VCCINT (power), AE4 VCCINT (power), AF32 VCCINT (power), AG5 VCCINT (power), AK31 VCCINT (power), AK35 VCCINT (power), AL3 VCCINT (power), AL5 VCCIO (power), AL6 GNDINT (power), AL12 VCCIO (power), AL30 GNDINT (power), AM5 VCCIO (power), AM6 GNDINT (power), AM19 VCCIO (power), AM26 VCCIO (power), AM30 GNDINT (power), AM31 VCCIO (power), AN3 VCCIO (power), AN4 VCCIO (power), AN5 GNDINT (power), AN6 GNDINT (power), AN8 VCCIO (power), AN15 VCCIO (power), AN30 GNDINT (power), AN31 GNDINT (power), AN32 VCCIO (power), AN33 VCCIO (power), AN35 GNDINT (power), AP2 GNDINT (power), AP3 GNDINT (power), AP4 GNDINT (power), AP5 GNDINT (power), AP6 GNDINT (power), AP24 VCCINT (power), AP30 GNDINT (power), AP31 GNDINT (power), AP32 GNDINT (power), AP33 GNDINT (power), AP34 VCCIO (power), AR1 GNDINT (power), AR2 GNDINT (power), AR3 GNDINT (power), AR4 GNDINT (power), AR5 GNDINT (power), AR11 VCCINT (power), AR18 VCCINT (power), AR23 VCCIO (power), AR30 GNDINT (power), AR31 GNDINT (power), AR32 GNDINT (power), AR33 GNDINT (power), AR34 GNDINT (power), AR35 GNDINT (power), B1 VCCINT (power), B2 GNDINT (power), B3 GNDINT (power), B4 GNDINT (power), B5 GNDINT (power), B6 GNDINT (power), B18 VCC_CKLK (power), B31 GNDINT (power), B32 GNDINT (power), B33 GNDINT (power), B34 GNDINT (power), B35 GNDINT (power), C2 VCCIO (power), C3 VCCIO (power), C4 VCCIO (power), C5 GNDINT (power), C6 GNDINT (power), C8 VCCIO (power), C15 VCCIO (power), C23 VCCIO (power), C30 GNDINT (power), C31 GNDINT (power), C32 VCCIO (power), C33 VCCIO (power), D5 VCCIO (power), D6 GNDINT (power), D24 VCCINT (power), D30 GNDINT (power), D31 VCCIO (power), E2 VCCINT (power), E5 VCCIO (power), E6 GNDINT (power), E12 VCCIO (power), E30 GNDINT (power), E31 VCCIO (power), F31 VCCINT (power), F35 VCCINT (power), H1 VCCINT (power), K32 VCCINT (power), M2 VCCINT (power), N34 VCCINT (power), P5 VCCINT (power), T35 VCCINT (power), U3 VCCINT (power), V32 VCCINT (power), Y2 VCCINT (power)
part F pins: AA2 NC, AA34 NC, AB1 NC, AB31 NC, AB34 NC, AB35 NC, AC31 NC, AC34 NC, AE33 NC, AE35 NC, AF1 NC, AG3 NC, AH2 NC, AJ32 NC, AK2 NC, AK32 NC, AL33 NC, D3 NC, D35 NC, E1 NC, F34 NC, G2 NC, H5 NC, J3 NC, J4 NC, J32 NC, K1 NC, L4 NC, L31 NC, M3 NC, N1 NC, N33 NC, N35 NC, P4 NC, P33 NC, R2 NC, R32 NC, T4 NC, U5 NC, U34 NC, V3 NC, V34 NC, W1 NC, W31 NC, W35 NC, Y31 NC

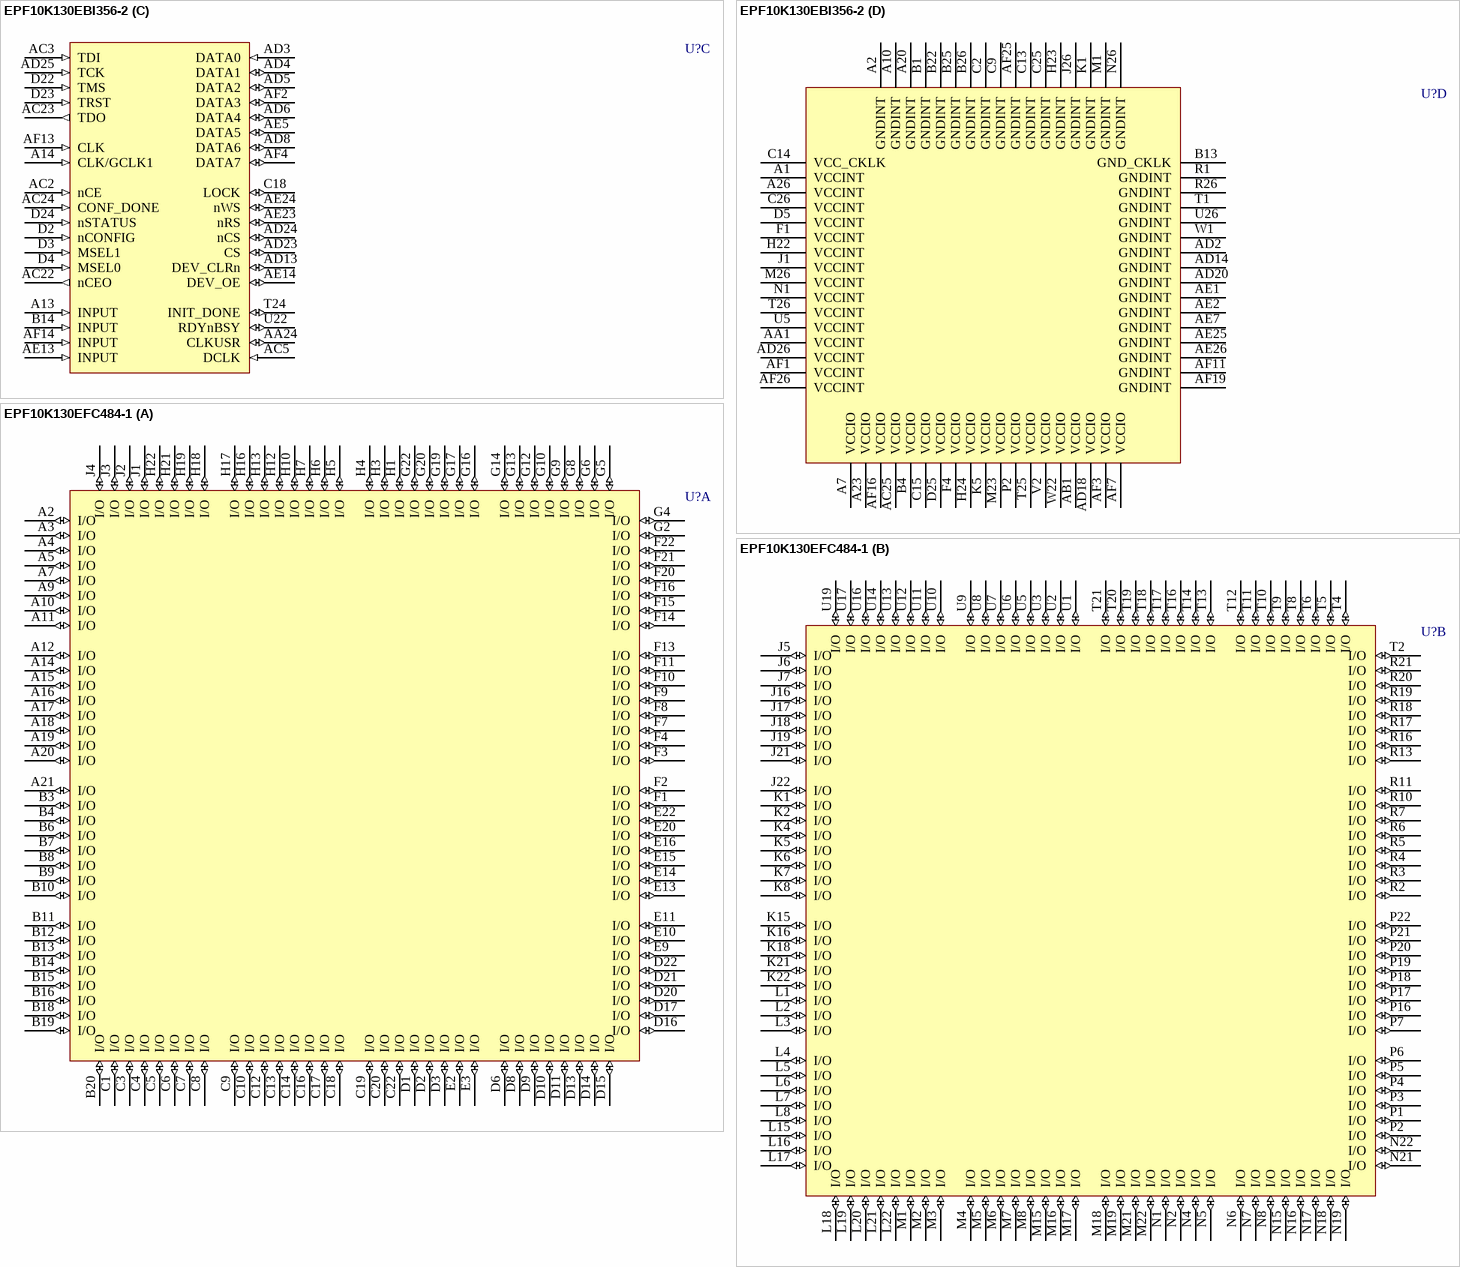
[diagram p282: symbols EPF10K130EBI356-2 to EPF10K130EFC484-1]